# Altium integrated library Altera Stratix GX.IntLib: 96 symbols (part 1 of 44)
Pins are listed as number, name and electrical type; pins without a type are passive.

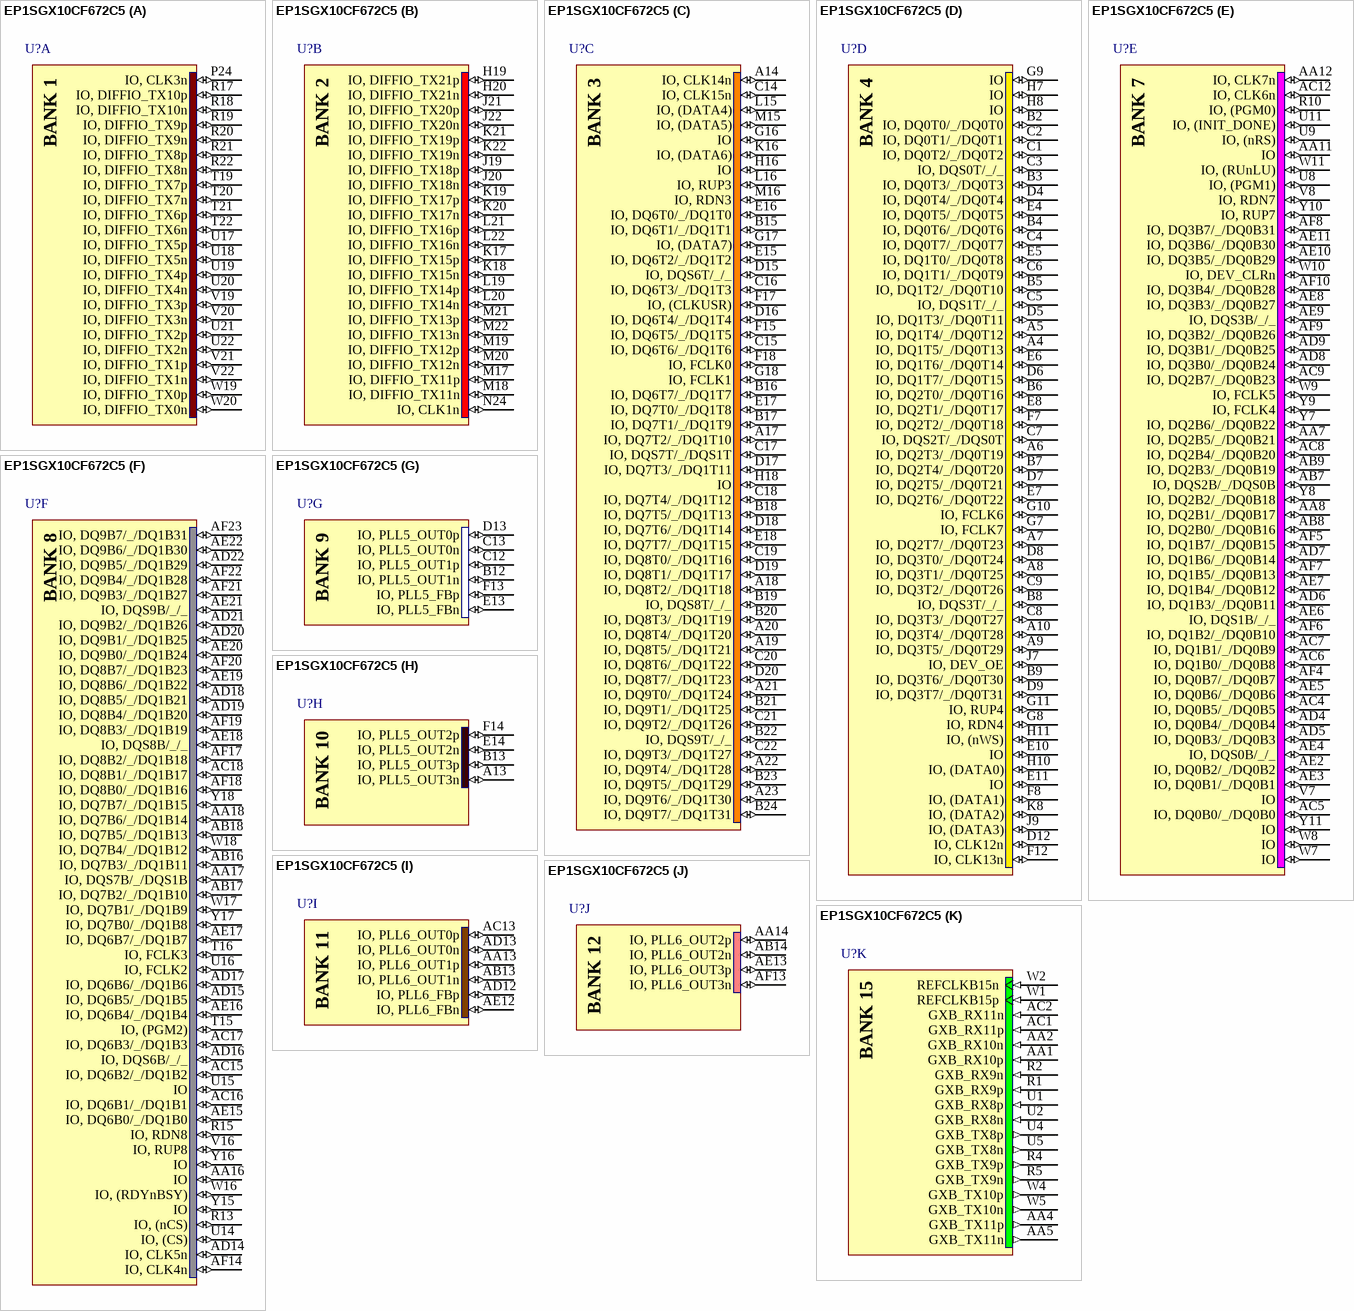
[diagram p0: symbol EP1SGX10CF672C5]

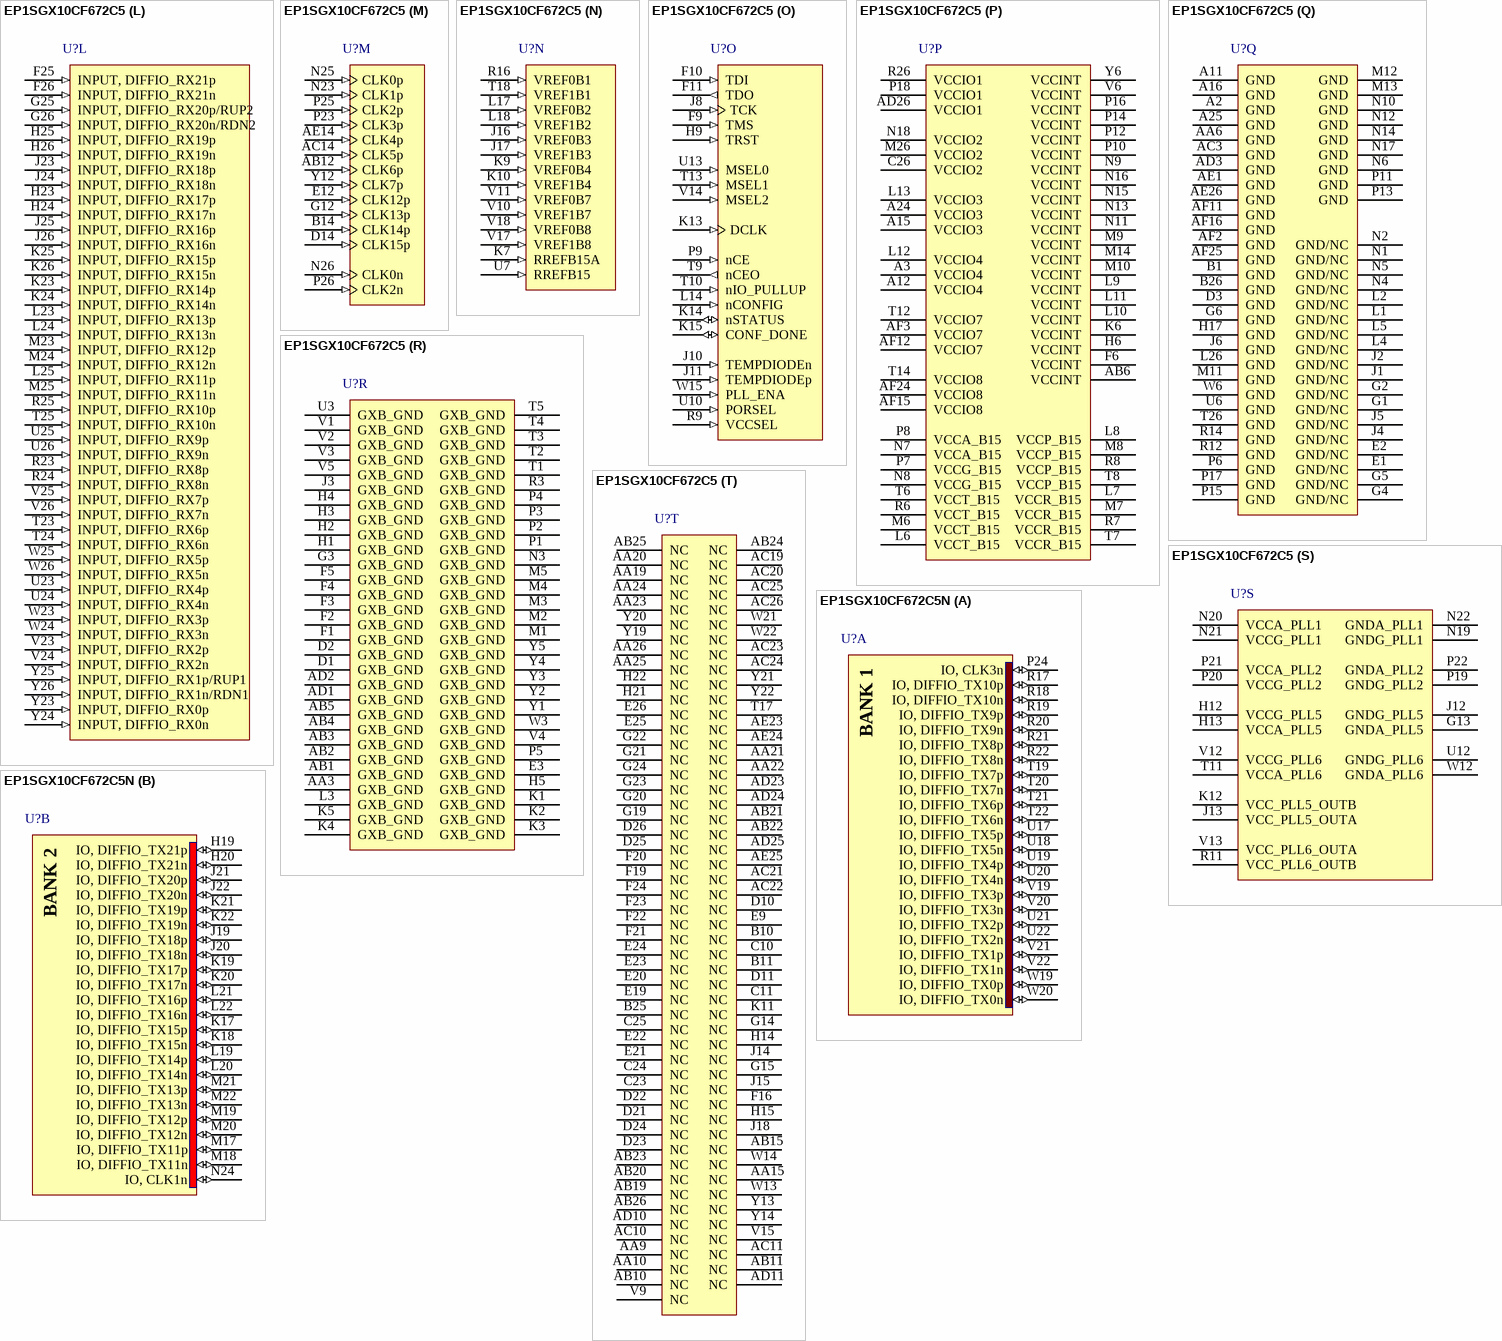
[diagram p1: symbols EP1SGX10CF672C5 to EP1SGX10CF672C5N]

## EP1SGX10CF672C5
designator U?
Stratix GX 1.5V FPGA, 330 I/Os, 672-Pin FineLine FBGA, Commercial Grade, Speed Grade 5; Published: 11-Oct-2004; LatestRevisionDate: 13-Apr-2006; LatestRevisionNote: Name of pin K7 updated, IPC-7351 Footprint Added.; DatasheetVersion: ver1.2, Jun-2006; PackageVersion: ver14.3, Jul-2006; PackageReference: FBGA672; Publisher: Altium Limited; PackageDescription: 672-Ball FineLine Ball Grid Array (FBGA672) - Flip Chip; Code_JEDEC: MS-034-AAL-1; ComponentLink1Description: Manufacturer Link; ComponentLink1URL: http://www.altera.com/products/devices/stratixgx/sgx-index.jsp; ComponentLink2Description: Handbook; ComponentLink2URL: http://www.altera.com/literature/hb/sgx/sgx_handbook.pdf; ComponentLink3Description: Packaging Specification; ComponentLink3URL: http://www.altera.com/literature/ds/dspkg.pdf
footprint FBGA672 (BGA, 672-Leads, Body 27x27mm, Pitch 1mm)
3D model EP1SGX10C-BGA672 (672-Ball FineLine Ball Grid Array (FBGA672) - Flip Chip)
part A pins: P24 IO, CLK3n (io), R17 IO, DIFFIO_TX10p (io), R18 IO, DIFFIO_TX10n (io), R19 IO, DIFFIO_TX9p (io), R20 IO, DIFFIO_TX9n (io), R21 IO, DIFFIO_TX8p (io), R22 IO, DIFFIO_TX8n (io), T19 IO, DIFFIO_TX7p (io), T20 IO, DIFFIO_TX7n (io), T21 IO, DIFFIO_TX6p (io), T22 IO, DIFFIO_TX6n (io), U17 IO, DIFFIO_TX5p (io), U18 IO, DIFFIO_TX5n (io), U19 IO, DIFFIO_TX4p (io), U20 IO, DIFFIO_TX4n (io), U21 IO, DIFFIO_TX2p (io), U22 IO, DIFFIO_TX2n (io), V19 IO, DIFFIO_TX3p (io), V20 IO, DIFFIO_TX3n (io), V21 IO, DIFFIO_TX1p (io), V22 IO, DIFFIO_TX1n (io), W19 IO, DIFFIO_TX0p (io), W20 IO, DIFFIO_TX0n (io)
part B pins: H19 IO, DIFFIO_TX21p (io), H20 IO, DIFFIO_TX21n (io), J19 IO, DIFFIO_TX18p (io), J20 IO, DIFFIO_TX18n (io), J21 IO, DIFFIO_TX20p (io), J22 IO, DIFFIO_TX20n (io), K17 IO, DIFFIO_TX15p (io), K18 IO, DIFFIO_TX15n (io), K19 IO, DIFFIO_TX17p (io), K20 IO, DIFFIO_TX17n (io), K21 IO, DIFFIO_TX19p (io), K22 IO, DIFFIO_TX19n (io), L19 IO, DIFFIO_TX14p (io), L20 IO, DIFFIO_TX14n (io), L21 IO, DIFFIO_TX16p (io), L22 IO, DIFFIO_TX16n (io), M17 IO, DIFFIO_TX11p (io), M18 IO, DIFFIO_TX11n (io), M19 IO, DIFFIO_TX12p (io), M20 IO, DIFFIO_TX12n (io), M21 IO, DIFFIO_TX13p (io), M22 IO, DIFFIO_TX13n (io), N24 IO, CLK1n (io)
part C pins: A14 IO, CLK14n (io), A17 IO, DQ7T2/_/DQ1T10 (io), A18 IO, DQ8T2/_/DQ1T18 (io), A19 IO, DQ8T5/_/DQ1T21 (io), A20 IO, DQ8T4/_/DQ1T20 (io), A21 IO, DQ9T0/_/DQ1T24 (io), A22 IO, DQ9T4/_/DQ1T28 (io), A23 IO, DQ9T6/_/DQ1T30 (io), B15 IO, DQ6T1/_/DQ1T1 (io), B16 IO, DQ6T7/_/DQ1T7 (io), B17 IO, DQ7T1/_/DQ1T9 (io), B18 IO, DQ7T5/_/DQ1T13 (io), B19 IO, DQS8T/_/_ (io), B20 IO, DQ8T3/_/DQ1T19 (io), B21 IO, DQ9T1/_/DQ1T25 (io), B22 IO, DQS9T/_/_ (io), B23 IO, DQ9T5/_/DQ1T29 (io), B24 IO, DQ9T7/_/DQ1T31 (io), C14 IO, CLK15n (io), C15 IO, DQ6T6/_/DQ1T6 (io), C16 IO, DQ6T3/_/DQ1T3 (io), C17 IO, DQS7T/_/DQS1T (io), C18 IO, DQ7T4/_/DQ1T12 (io), C19 IO, DQ8T0/_/DQ1T16 (io), C20 IO, DQ8T6/_/DQ1T22 (io), C21 IO, DQ9T2/_/DQ1T26 (io), C22 IO, DQ9T3/_/DQ1T27 (io), D15 IO, DQS6T/_/_ (io), D16 IO, DQ6T4/_/DQ1T4 (io), D17 IO, DQ7T3/_/DQ1T11 (io), D18 IO, DQ7T6/_/DQ1T14 (io), D19 IO, DQ8T1/_/DQ1T17 (io), D20 IO, DQ8T7/_/DQ1T23 (io), E15 IO, DQ6T2/_/DQ1T2 (io), E16 IO, DQ6T0/_/DQ1T0 (io), E17 IO, DQ7T0/_/DQ1T8 (io), E18 IO, DQ7T7/_/DQ1T15 (io), F15 IO, DQ6T5/_/DQ1T5 (io), F17 IO, (CLKUSR) (io), F18 IO, FCLK0 (io), G16 IO (io), G17 IO, (DATA7) (io), G18 IO, FCLK1 (io), H16 IO (io), H18 IO (io), K16 IO, (DATA6) (io), L15 IO, (DATA4) (io), L16 IO, RUP3 (io), M15 IO, (DATA5) (io), M16 IO, RDN3 (io)
part D pins: A4 IO, DQ1T5/_/DQ0T13 (io), A5 IO, DQ1T4/_/DQ0T12 (io), A6 IO, DQ2T3/_/DQ0T19 (io), A7 IO, DQ2T7/_/DQ0T23 (io), A8 IO, DQ3T1/_/DQ0T25 (io), A9 IO, DQ3T5/_/DQ0T29 (io), A10 IO, DQ3T4/_/DQ0T28 (io), B2 IO, DQ0T0/_/DQ0T0 (io), B3 IO, DQ0T3/_/DQ0T3 (io), B4 IO, DQ0T6/_/DQ0T6 (io), B5 IO, DQ1T2/_/DQ0T10 (io), B6 IO, DQ2T0/_/DQ0T16 (io), B7 IO, DQ2T4/_/DQ0T20 (io), B8 IO, DQS3T/_/_ (io), B9 IO, DQ3T6/_/DQ0T30 (io), C1 IO, DQ0T2/_/DQ0T2 (io), C2 IO, DQ0T1/_/DQ0T1 (io), C3 IO, DQS0T/_/_ (io), C4 IO, DQ0T7/_/DQ0T7 (io), C5 IO, DQS1T/_/_ (io), C6 IO, DQ1T1/_/DQ0T9 (io), C7 IO, DQS2T/_/DQS0T (io), C8 IO, DQ3T3/_/DQ0T27 (io), C9 IO, DQ3T2/_/DQ0T26 (io), D4 IO, DQ0T4/_/DQ0T4 (io), D5 IO, DQ1T3/_/DQ0T11 (io), D6 IO, DQ1T7/_/DQ0T15 (io), D7 IO, DQ2T5/_/DQ0T21 (io), D8 IO, DQ3T0/_/DQ0T24 (io), D9 IO, DQ3T7/_/DQ0T31 (io), D12 IO, CLK12n (io), E4 IO, DQ0T5/_/DQ0T5 (io), E5 IO, DQ1T0/_/DQ0T8 (io), E6 IO, DQ1T6/_/DQ0T14 (io), E7 IO, DQ2T6/_/DQ0T22 (io), E8 IO, DQ2T1/_/DQ0T17 (io), E10 IO (io), E11 IO (io), F7 IO, DQ2T2/_/DQ0T18 (io), F8 IO, (DATA1) (io), F12 IO, CLK13n (io), G7 IO, FCLK7 (io), G8 IO, RDN4 (io), G9 IO (io), G10 IO, FCLK6 (io), G11 IO, RUP4 (io), H7 IO (io), H8 IO (io), H10 IO, (DATA0) (io), H11 IO, (nWS) (io), J7 IO, DEV_OE (io), J9 IO, (DATA3) (io), K8 IO, (DATA2) (io)
part E pins: AA7 IO, DQ2B5/_/DQ0B21 (io), AA8 IO, DQ2B1/_/DQ0B17 (io), AA11 IO (io), AA12 IO, CLK7n (io), AB7 IO, DQS2B/_/DQS0B (io), AB8 IO, DQ2B0/_/DQ0B16 (io), AB9 IO, DQ2B3/_/DQ0B19 (io), AC4 IO, DQ0B5/_/DQ0B5 (io), AC5 IO, DQ0B0/_/DQ0B0 (io), AC6 IO, DQ1B0/_/DQ0B8 (io), AC7 IO, DQ1B1/_/DQ0B9 (io), AC8 IO, DQ2B4/_/DQ0B20 (io), AC9 IO, DQ2B7/_/DQ0B23 (io), AC12 IO, CLK6n (io), AD4 IO, DQ0B4/_/DQ0B4 (io), AD5 IO, DQ0B3/_/DQ0B3 (io), AD6 IO, DQ1B3/_/DQ0B11 (io), AD7 IO, DQ1B6/_/DQ0B14 (io), AD8 IO, DQ3B0/_/DQ0B24 (io), AD9 IO, DQ3B1/_/DQ0B25 (io), AE2 IO, DQ0B2/_/DQ0B2 (io), AE3 IO, DQ0B1/_/DQ0B1 (io), AE4 IO, DQS0B/_/_ (io), AE5 IO, DQ0B6/_/DQ0B6 (io), AE6 IO, DQS1B/_/_ (io), AE7 IO, DQ1B4/_/DQ0B12 (io), AE8 IO, DQ3B3/_/DQ0B27 (io), AE9 IO, DQS3B/_/_ (io), AE10 IO, DQ3B5/_/DQ0B29 (io), AE11 IO, DQ3B6/_/DQ0B30 (io), AF4 IO, DQ0B7/_/DQ0B7 (io), AF5 IO, DQ1B7/_/DQ0B15 (io), AF6 IO, DQ1B2/_/DQ0B10 (io), AF7 IO, DQ1B5/_/DQ0B13 (io), AF8 IO, DQ3B7/_/DQ0B31 (io), AF9 IO, DQ3B2/_/DQ0B26 (io), AF10 IO, DQ3B4/_/DQ0B28 (io), R10 IO, (PGM0) (io), U8 IO, (PGM1) (io), U9 IO, (nRS) (io), U11 IO, (INIT_DONE) (io), V7 IO (io), V8 IO, RDN7 (io), W7 IO (io), W8 IO (io), W9 IO, FCLK5 (io), W10 IO, DEV_CLRn (io), W11 IO, (RUnLU) (io), Y7 IO, DQ2B6/_/DQ0B22 (io), Y8 IO, DQ2B2/_/DQ0B18 (io), Y9 IO, FCLK4 (io), Y10 IO, RUP7 (io), Y11 IO (io)
part F pins: AA16 IO (io), AA17 IO, DQS7B/_/DQS1B (io), AA18 IO, DQ7B6/_/DQ1B14 (io), AB16 IO, DQ7B3/_/DQ1B11 (io), AB17 IO, DQ7B2/_/DQ1B10 (io), AB18 IO, DQ7B5/_/DQ1B13 (io), AC15 IO, DQ6B2/_/DQ1B2 (io), AC16 IO, DQ6B1/_/DQ1B1 (io), AC17 IO, DQ6B3/_/DQ1B3 (io), AC18 IO, DQ8B1/_/DQ1B17 (io), AD14 IO, CLK5n (io), AD15 IO, DQ6B5/_/DQ1B5 (io), AD16 IO, DQS6B/_/_ (io), AD17 IO, DQ6B6/_/DQ1B6 (io), AD18 IO, DQ8B5/_/DQ1B21 (io), AD19 IO, DQ8B4/_/DQ1B20 (io), AD20 IO, DQ9B1/_/DQ1B25 (io), AD21 IO, DQ9B2/_/DQ1B26 (io), AD22 IO, DQ9B5/_/DQ1B29 (io), AE15 IO, DQ6B0/_/DQ1B0 (io), AE16 IO, DQ6B4/_/DQ1B4 (io), AE17 IO, DQ6B7/_/DQ1B7 (io), AE18 IO, DQS8B/_/_ (io), AE19 IO, DQ8B6/_/DQ1B22 (io), AE20 IO, DQ9B0/_/DQ1B24 (io), AE21 IO, DQS9B/_/_ (io), AE22 IO, DQ9B6/_/DQ1B30 (io), AF14 IO, CLK4n (io), AF17 IO, DQ8B2/_/DQ1B18 (io), AF18 IO, DQ8B0/_/DQ1B16 (io), AF19 IO, DQ8B3/_/DQ1B19 (io), AF20 IO, DQ8B7/_/DQ1B23 (io), AF21 IO, DQ9B3/_/DQ1B27 (io), AF22 IO, DQ9B4/_/DQ1B28 (io), AF23 IO, DQ9B7/_/DQ1B31 (io), R13 IO, (nCS) (io), R15 IO, RDN8 (io), T15 IO, (PGM2) (io), T16 IO, FCLK3 (io), U14 IO, (CS) (io), U15 IO (io), U16 IO, FCLK2 (io), V16 IO, RUP8 (io), W16 IO, (RDYnBSY) (io), W17 IO, DQ7B1/_/DQ1B9 (io), W18 IO, DQ7B4/_/DQ1B12 (io), Y15 IO (io), Y16 IO (io), Y17 IO, DQ7B0/_/DQ1B8 (io), Y18 IO, DQ7B7/_/DQ1B15 (io)
part G pins: B12 IO, PLL5_OUT1n (io), C12 IO, PLL5_OUT1p (io), C13 IO, PLL5_OUT0n (io), D13 IO, PLL5_OUT0p (io), E13 IO, PLL5_FBn (io), F13 IO, PLL5_FBp (io)
part H pins: A13 IO, PLL5_OUT3n (io), B13 IO, PLL5_OUT3p (io), E14 IO, PLL5_OUT2n (io), F14 IO, PLL5_OUT2p (io)
part I pins: AA13 IO, PLL6_OUT1p (io), AB13 IO, PLL6_OUT1n (io), AC13 IO, PLL6_OUT0p (io), AD12 IO, PLL6_FBp (io), AD13 IO, PLL6_OUT0n (io), AE12 IO, PLL6_FBn (io)
part J pins: AA14 IO, PLL6_OUT2p (io), AB14 IO, PLL6_OUT2n (io), AE13 IO, PLL6_OUT3p (io), AF13 IO, PLL6_OUT3n (io)
part K pins: AA1 GXB_RX10p (in), AA2 GXB_RX10n (in), AA4 GXB_TX11p (out), AA5 GXB_TX11n (out), AC1 GXB_RX11p (in), AC2 GXB_RX11n (in), R1 GXB_RX9p (in), R2 GXB_RX9n (in), R4 GXB_TX9p (out), R5 GXB_TX9n (out), U1 GXB_RX8p (in), U2 GXB_RX8n (in), U4 GXB_TX8p (out), U5 GXB_TX8n (out), W1 REFCLKB15p (in), W2 REFCLKB15n (in), W4 GXB_TX10p (out), W5 GXB_TX10n (out)
part L pins: F25 INPUT, DIFFIO_RX21p (in), F26 INPUT, DIFFIO_RX21n (in), G25 INPUT, DIFFIO_RX20p/RUP2 (in), G26 INPUT, DIFFIO_RX20n/RDN2 (in), H23 INPUT, DIFFIO_RX17p (in), H24 INPUT, DIFFIO_RX17n (in), H25 INPUT, DIFFIO_RX19p (in), H26 INPUT, DIFFIO_RX19n (in), J23 INPUT, DIFFIO_RX18p (in), J24 INPUT, DIFFIO_RX18n (in), J25 INPUT, DIFFIO_RX16p (in), J26 INPUT, DIFFIO_RX16n (in), K23 INPUT, DIFFIO_RX14p (in), K24 INPUT, DIFFIO_RX14n (in), K25 INPUT, DIFFIO_RX15p (in), K26 INPUT, DIFFIO_RX15n (in), L23 INPUT, DIFFIO_RX13p (in), L24 INPUT, DIFFIO_RX13n (in), L25 INPUT, DIFFIO_RX11p (in), M23 INPUT, DIFFIO_RX12p (in), M24 INPUT, DIFFIO_RX12n (in), M25 INPUT, DIFFIO_RX11n (in), R23 INPUT, DIFFIO_RX8p (in), R24 INPUT, DIFFIO_RX8n (in), R25 INPUT, DIFFIO_RX10p (in), T23 INPUT, DIFFIO_RX6p (in), T24 INPUT, DIFFIO_RX6n (in), T25 INPUT, DIFFIO_RX10n (in), U23 INPUT, DIFFIO_RX4p (in), U24 INPUT, DIFFIO_RX4n (in), U25 INPUT, DIFFIO_RX9p (in), U26 INPUT, DIFFIO_RX9n (in), V23 INPUT, DIFFIO_RX2p (in), V24 INPUT, DIFFIO_RX2n (in), V25 INPUT, DIFFIO_RX7p (in), V26 INPUT, DIFFIO_RX7n (in), W23 INPUT, DIFFIO_RX3p (in), W24 INPUT, DIFFIO_RX3n (in), W25 INPUT, DIFFIO_RX5p (in), W26 INPUT, DIFFIO_RX5n (in), Y23 INPUT, DIFFIO_RX0p (in), Y24 INPUT, DIFFIO_RX0n (in), Y25 INPUT, DIFFIO_RX1p/RUP1 (in), Y26 INPUT, DIFFIO_RX1n/RDN1 (in)
part M pins: AB12 CLK6p (in), AC14 CLK5p (in), AE14 CLK4p (in), B14 CLK14p (in), D14 CLK15p (in), E12 CLK12p (in), G12 CLK13p (in), N23 CLK1p (in), N25 CLK0p (in), N26 CLK0n (in), P23 CLK3p (in), P25 CLK2p (in), P26 CLK2n (in), Y12 CLK7p (in)
part N pins: J16 VREF0B3 (in), J17 VREF1B3 (in), K7 RREFB15A (in), K9 VREF0B4 (in), K10 VREF1B4 (in), L17 VREF0B2 (in), L18 VREF1B2 (in), R16 VREF0B1 (in), T18 VREF1B1 (in), U7 RREFB15 (in), V10 VREF1B7 (in), V11 VREF0B7 (in), V17 VREF1B8 (in), V18 VREF0B8 (in)
part O pins: F9 TMS (in), F10 TDI (in), F11 TDO (out), H9 TRST (in), J8 TCK (in), J10 TEMPDIODEn (in), J11 TEMPDIODEp (in), K13 DCLK (in), K14 nSTATUS (io), K15 CONF_DONE (io), L14 nCONFIG (in), P9 nCE (in), R9 VCCSEL (in), T9 nCEO (out), T10 nIO_PULLUP (in), T13 MSEL1 (in), U10 PORSEL (in), U13 MSEL0 (in), V14 MSEL2 (in), W15 PLL_ENA (in)
part P pins: A3 VCCIO4 (power), A12 VCCIO4 (power), A15 VCCIO3 (power), A24 VCCIO3 (power), AB6 VCCINT (power), AD26 VCCIO1 (power), AF3 VCCIO7 (power), AF12 VCCIO7 (power), AF15 VCCIO8 (power), AF24 VCCIO8 (power), C26 VCCIO2 (power), F6 VCCINT (power), H6 VCCINT (power), K6 VCCINT (power), L6 VCCT_B15 (power), L7 VCCR_B15 (power), L8 VCCP_B15 (power), L9 VCCINT (power), L10 VCCINT (power), L11 VCCINT (power), L12 VCCIO4 (power), L13 VCCIO3 (power), M6 VCCT_B15 (power), M7 VCCR_B15 (power), M8 VCCP_B15 (power), M9 VCCINT (power), M10 VCCINT (power), M14 VCCINT (power), M26 VCCIO2 (power), N7 VCCA_B15 (power), N8 VCCG_B15 (power), N9 VCCINT (power), N11 VCCINT (power), N13 VCCINT (power), N15 VCCINT (power), N16 VCCINT (power), N18 VCCIO2 (power), P7 VCCG_B15 (power), P8 VCCA_B15 (power), P10 VCCINT (power), P12 VCCINT (power), P14 VCCINT (power), P16 VCCINT (power), P18 VCCIO1 (power), R6 VCCT_B15 (power), R7 VCCR_B15 (power), R8 VCCP_B15 (power), R26 VCCIO1 (power), T6 VCCT_B15 (power), T7 VCCR_B15 (power), T8 VCCP_B15 (power), T12 VCCIO7 (power), T14 VCCIO8 (power), V6 VCCINT (power), Y6 VCCINT (power)
part Q pins: A2 GND (power), A11 GND (power), A16 GND (power), A25 GND (power), AA6 GND (power), AC3 GND (power), AD3 GND (power), AE1 GND (power), AE26 GND (power), AF2 GND (power), AF11 GND (power), AF16 GND (power), AF25 GND (power), B1 GND (power), B26 GND (power), D3 GND (power), E1 GND/NC (power), E2 GND/NC (power), G1 GND/NC (power), G2 GND/NC (power), G4 GND/NC (power), G5 GND/NC (power), G6 GND (power), H17 GND (power), J1 GND/NC (power), J2 GND/NC (power), J4 GND/NC (power), J5 GND/NC (power), J6 GND (power), L1 GND/NC (power), L2 GND/NC (power), L4 GND/NC (power), L5 GND/NC (power), L26 GND (power), M11 GND (power), M12 GND (power), M13 GND (power), N1 GND/NC (power), N2 GND/NC (power), N4 GND/NC (power), N5 GND/NC (power), N6 GND (power), N10 GND (power), N12 GND (power), N14 GND (power), N17 GND (power), P6 GND (power), P11 GND (power), P13 GND (power), P15 GND (power), P17 GND (power), R12 GND (power), R14 GND (power), T26 GND (power), U6 GND (power), W6 GND (power)
part R pins: AA3 GXB_GND (power), AB1 GXB_GND (power), AB2 GXB_GND (power), AB3 GXB_GND (power), AB4 GXB_GND (power), AB5 GXB_GND (power), AD1 GXB_GND (power), AD2 GXB_GND (power), D1 GXB_GND (power), D2 GXB_GND (power), E3 GXB_GND (power), F1 GXB_GND (power), F2 GXB_GND (power), F3 GXB_GND (power), F4 GXB_GND (power), F5 GXB_GND (power), G3 GXB_GND (power), H1 GXB_GND (power), H2 GXB_GND (power), H3 GXB_GND (power), H4 GXB_GND (power), H5 GXB_GND (power), J3 GXB_GND (power), K1 GXB_GND (power), K2 GXB_GND (power), K3 GXB_GND (power), K4 GXB_GND (power), K5 GXB_GND (power), L3 GXB_GND (power), M1 GXB_GND (power), M2 GXB_GND (power), M3 GXB_GND (power), M4 GXB_GND (power), M5 GXB_GND (power), N3 GXB_GND (power), P1 GXB_GND (power), P2 GXB_GND (power), P3 GXB_GND (power), P4 GXB_GND (power), P5 GXB_GND (power), R3 GXB_GND (power), T1 GXB_GND (power), T2 GXB_GND (power), T3 GXB_GND (power), T4 GXB_GND (power), T5 GXB_GND (power), U3 GXB_GND (power), V1 GXB_GND (power), V2 GXB_GND (power), V3 GXB_GND (power), V4 GXB_GND (power), V5 GXB_GND (power), W3 GXB_GND (power), Y1 GXB_GND (power), Y2 GXB_GND (power), Y3 GXB_GND (power), Y4 GXB_GND (power), Y5 GXB_GND (power)
part S pins: G13 GNDA_PLL5 (power), H12 VCCG_PLL5 (power), H13 VCCA_PLL5 (power), J12 GNDG_PLL5 (power), J13 VCC_PLL5_OUTA (power), K12 VCC_PLL5_OUTB (power), N19 GNDG_PLL1 (power), N20 VCCA_PLL1 (power), N21 VCCG_PLL1 (power), N22 GNDA_PLL1 (power), P19 GNDG_PLL2 (power), P20 VCCG_PLL2 (power), P21 VCCA_PLL2 (power), P22 GNDA_PLL2 (power), R11 VCC_PLL6_OUTB (power), T11 VCCA_PLL6 (power), U12 GNDG_PLL6 (power), V12 VCCG_PLL6 (power), V13 VCC_PLL6_OUTA (power), W12 GNDA_PLL6 (power)
part T pins: AA9 NC, AA10 NC, AA15 NC, AA19 NC, AA20 NC, AA21 NC, AA22 NC, AA23 NC, AA24 NC, AA25 NC, AA26 NC, AB10 NC, AB11 NC, AB15 NC, AB19 NC, AB20 NC, AB21 NC, AB22 NC, AB23 NC, AB24 NC, AB25 NC, AB26 NC, AC10 NC, AC11 NC, AC19 NC, AC20 NC, AC21 NC, AC22 NC, AC23 NC, AC24 NC, AC25 NC, AC26 NC, AD10 NC, AD11 NC, AD23 NC, AD24 NC, AD25 NC, AE23 NC, AE24 NC, AE25 NC, B10 NC, B11 NC, B25 NC, C10 NC, C11 NC, C23 NC, C24 NC, C25 NC, D10 NC, D11 NC, D21 NC, D22 NC, D23 NC, D24 NC, D25 NC, D26 NC, E9 NC, E19 NC, E20 NC, E21 NC, E22 NC, E23 NC, E24 NC, E25 NC, E26 NC, F16 NC, F19 NC, F20 NC, F21 NC, F22 NC, F23 NC, F24 NC, G14 NC, G15 NC, G19 NC, G20 NC, G21 NC, G22 NC, G23 NC, G24 NC, H14 NC, H15 NC, H21 NC, H22 NC, J14 NC, J15 NC, J18 NC, K11 NC, T17 NC, V9 NC, V15 NC, W13 NC, W14 NC, W21 NC, W22 NC, Y13 NC, Y14 NC, Y19 NC, Y20 NC, Y21 NC, Y22 NC
part A text: BANK 1
part B text: BANK 2
part C text: BANK 3
part D text: BANK 4
part E text: BANK 7
part F text: BANK 8
part G text: BANK 9
part H text: BANK 10
part I text: BANK 11
part J text: BANK 12
part K text: BANK 15

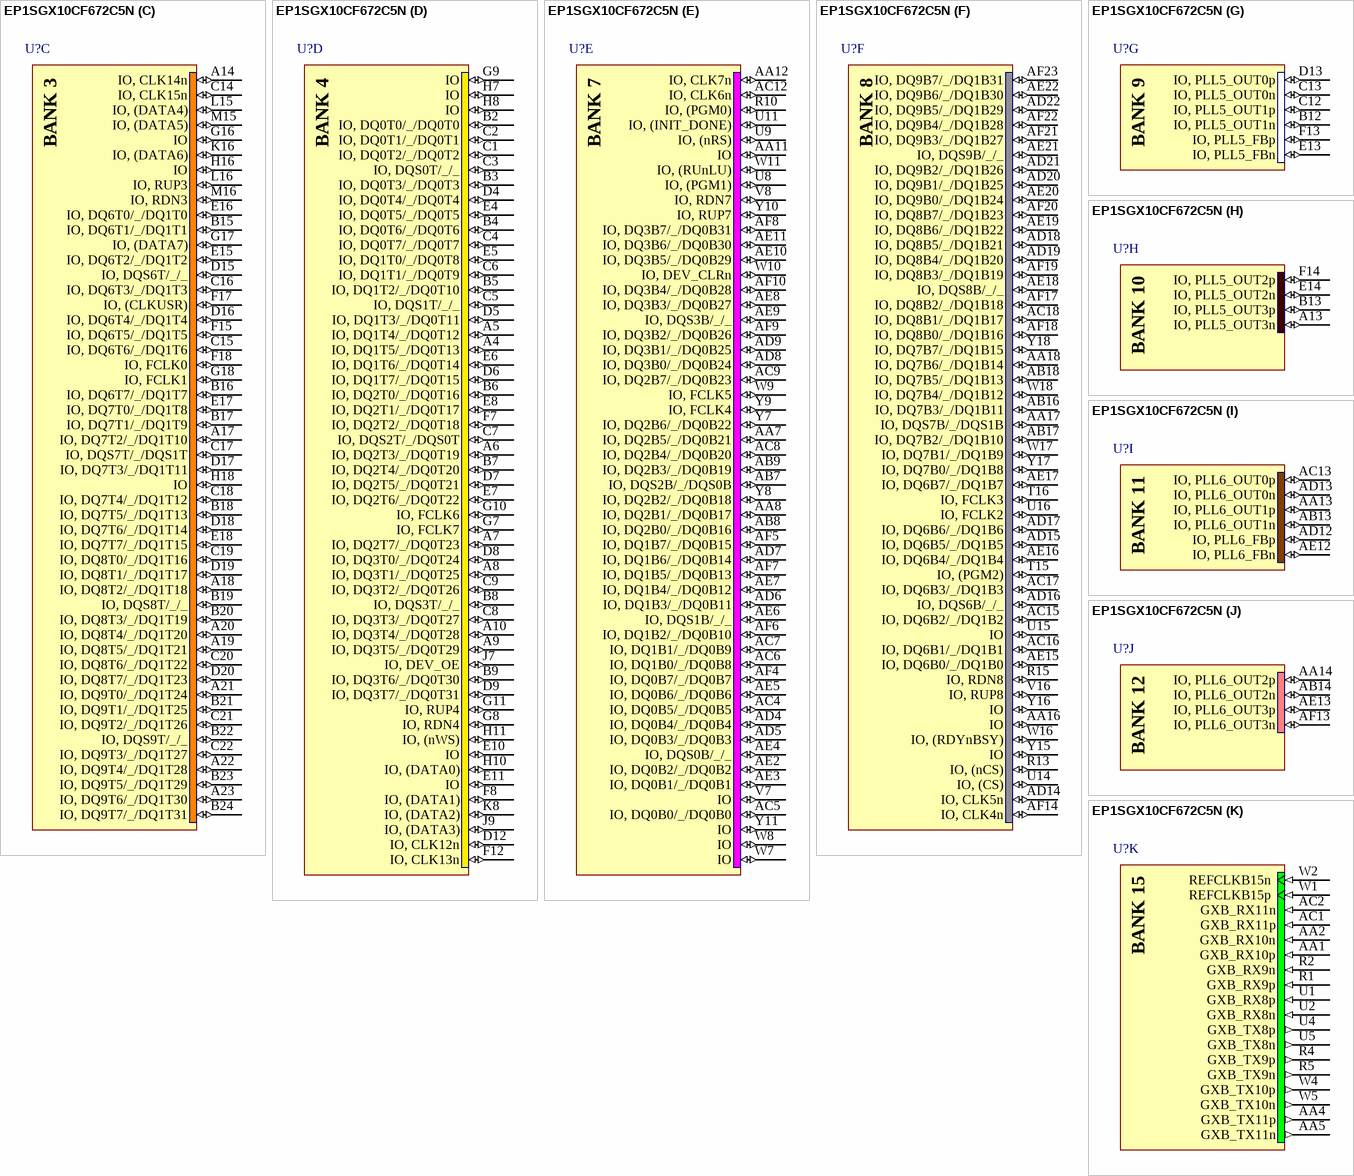
[diagram p2: symbol EP1SGX10CF672C5N]

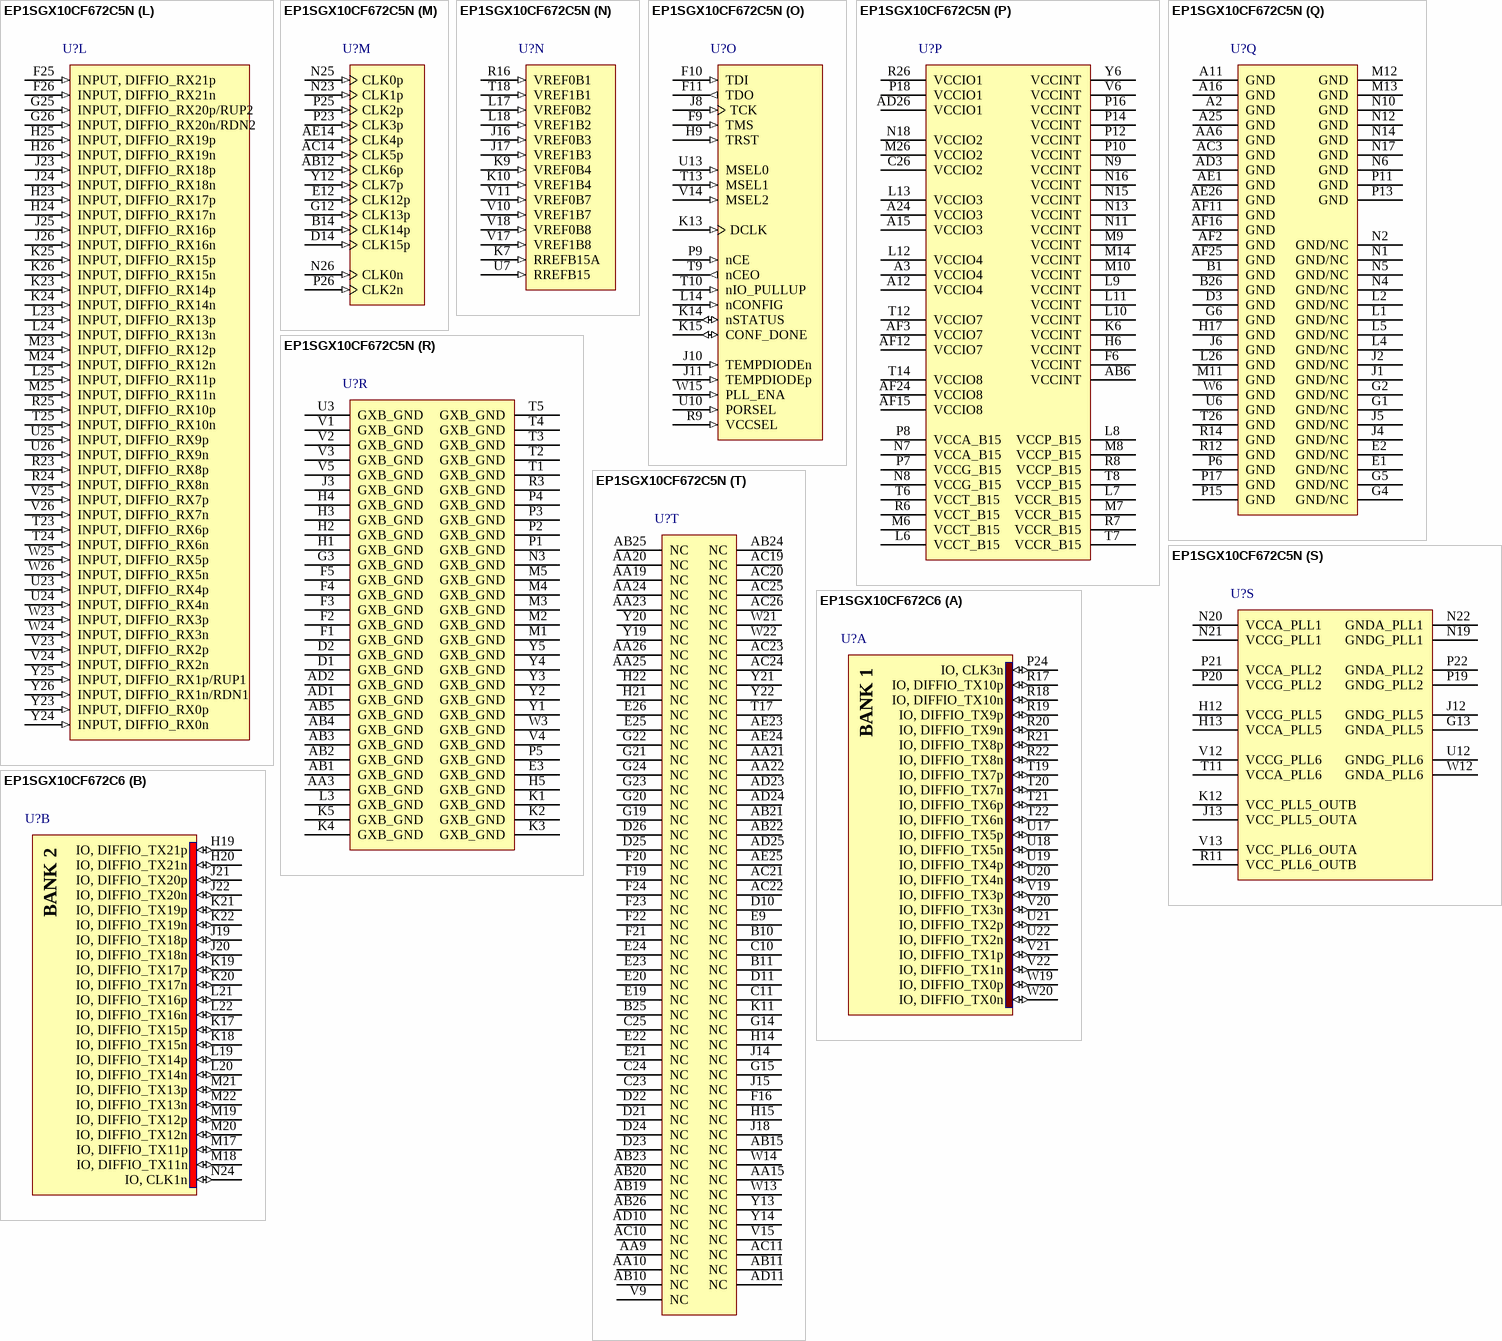
[diagram p3: symbols EP1SGX10CF672C5N to EP1SGX10CF672C6]

## EP1SGX10CF672C5N
designator U?
Stratix GX 1.5V FPGA, 330 I/Os, 672-Pin FineLine FBGA, Commercial Grade, Speed Grade 5, Pb-Free; Published: 18-Aug-2005; LatestRevisionDate: 13-Apr-2006; LatestRevisionNote: Name of pin K7 updated, IPC-7351 Footprint Added.; DatasheetVersion: ver1.2, Jun-2006; PackageVersion: ver14.3, Jul-2006; PackageReference: FBGA672; Publisher: Altium Limited; PackageDescription: 672-Ball FineLine Ball Grid Array (FBGA672) - Flip Chip; Code_JEDEC: MS-034-AAL-1; ComponentLink1Description: Manufacturer Link; ComponentLink1URL: http://www.altera.com/products/devices/stratixgx/sgx-index.jsp; ComponentLink2Description: Handbook; ComponentLink2URL: http://www.altera.com/literature/hb/sgx/sgx_handbook.pdf; ComponentLink3Description: Packaging Specification; ComponentLink3URL: http://www.altera.com/literature/ds/dspkg.pdf
footprint FBGA672 (BGA, 672-Leads, Body 27x27mm, Pitch 1mm)
3D model EP1SGX10C-BGA672 (672-Ball FineLine Ball Grid Array (FBGA672) - Flip Chip)
part A pins: P24 IO, CLK3n (io), R17 IO, DIFFIO_TX10p (io), R18 IO, DIFFIO_TX10n (io), R19 IO, DIFFIO_TX9p (io), R20 IO, DIFFIO_TX9n (io), R21 IO, DIFFIO_TX8p (io), R22 IO, DIFFIO_TX8n (io), T19 IO, DIFFIO_TX7p (io), T20 IO, DIFFIO_TX7n (io), T21 IO, DIFFIO_TX6p (io), T22 IO, DIFFIO_TX6n (io), U17 IO, DIFFIO_TX5p (io), U18 IO, DIFFIO_TX5n (io), U19 IO, DIFFIO_TX4p (io), U20 IO, DIFFIO_TX4n (io), U21 IO, DIFFIO_TX2p (io), U22 IO, DIFFIO_TX2n (io), V19 IO, DIFFIO_TX3p (io), V20 IO, DIFFIO_TX3n (io), V21 IO, DIFFIO_TX1p (io), V22 IO, DIFFIO_TX1n (io), W19 IO, DIFFIO_TX0p (io), W20 IO, DIFFIO_TX0n (io)
part B pins: H19 IO, DIFFIO_TX21p (io), H20 IO, DIFFIO_TX21n (io), J19 IO, DIFFIO_TX18p (io), J20 IO, DIFFIO_TX18n (io), J21 IO, DIFFIO_TX20p (io), J22 IO, DIFFIO_TX20n (io), K17 IO, DIFFIO_TX15p (io), K18 IO, DIFFIO_TX15n (io), K19 IO, DIFFIO_TX17p (io), K20 IO, DIFFIO_TX17n (io), K21 IO, DIFFIO_TX19p (io), K22 IO, DIFFIO_TX19n (io), L19 IO, DIFFIO_TX14p (io), L20 IO, DIFFIO_TX14n (io), L21 IO, DIFFIO_TX16p (io), L22 IO, DIFFIO_TX16n (io), M17 IO, DIFFIO_TX11p (io), M18 IO, DIFFIO_TX11n (io), M19 IO, DIFFIO_TX12p (io), M20 IO, DIFFIO_TX12n (io), M21 IO, DIFFIO_TX13p (io), M22 IO, DIFFIO_TX13n (io), N24 IO, CLK1n (io)
part C pins: A14 IO, CLK14n (io), A17 IO, DQ7T2/_/DQ1T10 (io), A18 IO, DQ8T2/_/DQ1T18 (io), A19 IO, DQ8T5/_/DQ1T21 (io), A20 IO, DQ8T4/_/DQ1T20 (io), A21 IO, DQ9T0/_/DQ1T24 (io), A22 IO, DQ9T4/_/DQ1T28 (io), A23 IO, DQ9T6/_/DQ1T30 (io), B15 IO, DQ6T1/_/DQ1T1 (io), B16 IO, DQ6T7/_/DQ1T7 (io), B17 IO, DQ7T1/_/DQ1T9 (io), B18 IO, DQ7T5/_/DQ1T13 (io), B19 IO, DQS8T/_/_ (io), B20 IO, DQ8T3/_/DQ1T19 (io), B21 IO, DQ9T1/_/DQ1T25 (io), B22 IO, DQS9T/_/_ (io), B23 IO, DQ9T5/_/DQ1T29 (io), B24 IO, DQ9T7/_/DQ1T31 (io), C14 IO, CLK15n (io), C15 IO, DQ6T6/_/DQ1T6 (io), C16 IO, DQ6T3/_/DQ1T3 (io), C17 IO, DQS7T/_/DQS1T (io), C18 IO, DQ7T4/_/DQ1T12 (io), C19 IO, DQ8T0/_/DQ1T16 (io), C20 IO, DQ8T6/_/DQ1T22 (io), C21 IO, DQ9T2/_/DQ1T26 (io), C22 IO, DQ9T3/_/DQ1T27 (io), D15 IO, DQS6T/_/_ (io), D16 IO, DQ6T4/_/DQ1T4 (io), D17 IO, DQ7T3/_/DQ1T11 (io), D18 IO, DQ7T6/_/DQ1T14 (io), D19 IO, DQ8T1/_/DQ1T17 (io), D20 IO, DQ8T7/_/DQ1T23 (io), E15 IO, DQ6T2/_/DQ1T2 (io), E16 IO, DQ6T0/_/DQ1T0 (io), E17 IO, DQ7T0/_/DQ1T8 (io), E18 IO, DQ7T7/_/DQ1T15 (io), F15 IO, DQ6T5/_/DQ1T5 (io), F17 IO, (CLKUSR) (io), F18 IO, FCLK0 (io), G16 IO (io), G17 IO, (DATA7) (io), G18 IO, FCLK1 (io), H16 IO (io), H18 IO (io), K16 IO, (DATA6) (io), L15 IO, (DATA4) (io), L16 IO, RUP3 (io), M15 IO, (DATA5) (io), M16 IO, RDN3 (io)
part D pins: A4 IO, DQ1T5/_/DQ0T13 (io), A5 IO, DQ1T4/_/DQ0T12 (io), A6 IO, DQ2T3/_/DQ0T19 (io), A7 IO, DQ2T7/_/DQ0T23 (io), A8 IO, DQ3T1/_/DQ0T25 (io), A9 IO, DQ3T5/_/DQ0T29 (io), A10 IO, DQ3T4/_/DQ0T28 (io), B2 IO, DQ0T0/_/DQ0T0 (io), B3 IO, DQ0T3/_/DQ0T3 (io), B4 IO, DQ0T6/_/DQ0T6 (io), B5 IO, DQ1T2/_/DQ0T10 (io), B6 IO, DQ2T0/_/DQ0T16 (io), B7 IO, DQ2T4/_/DQ0T20 (io), B8 IO, DQS3T/_/_ (io), B9 IO, DQ3T6/_/DQ0T30 (io), C1 IO, DQ0T2/_/DQ0T2 (io), C2 IO, DQ0T1/_/DQ0T1 (io), C3 IO, DQS0T/_/_ (io), C4 IO, DQ0T7/_/DQ0T7 (io), C5 IO, DQS1T/_/_ (io), C6 IO, DQ1T1/_/DQ0T9 (io), C7 IO, DQS2T/_/DQS0T (io), C8 IO, DQ3T3/_/DQ0T27 (io), C9 IO, DQ3T2/_/DQ0T26 (io), D4 IO, DQ0T4/_/DQ0T4 (io), D5 IO, DQ1T3/_/DQ0T11 (io), D6 IO, DQ1T7/_/DQ0T15 (io), D7 IO, DQ2T5/_/DQ0T21 (io), D8 IO, DQ3T0/_/DQ0T24 (io), D9 IO, DQ3T7/_/DQ0T31 (io), D12 IO, CLK12n (io), E4 IO, DQ0T5/_/DQ0T5 (io), E5 IO, DQ1T0/_/DQ0T8 (io), E6 IO, DQ1T6/_/DQ0T14 (io), E7 IO, DQ2T6/_/DQ0T22 (io), E8 IO, DQ2T1/_/DQ0T17 (io), E10 IO (io), E11 IO (io), F7 IO, DQ2T2/_/DQ0T18 (io), F8 IO, (DATA1) (io), F12 IO, CLK13n (io), G7 IO, FCLK7 (io), G8 IO, RDN4 (io), G9 IO (io), G10 IO, FCLK6 (io), G11 IO, RUP4 (io), H7 IO (io), H8 IO (io), H10 IO, (DATA0) (io), H11 IO, (nWS) (io), J7 IO, DEV_OE (io), J9 IO, (DATA3) (io), K8 IO, (DATA2) (io)
part E pins: AA7 IO, DQ2B5/_/DQ0B21 (io), AA8 IO, DQ2B1/_/DQ0B17 (io), AA11 IO (io), AA12 IO, CLK7n (io), AB7 IO, DQS2B/_/DQS0B (io), AB8 IO, DQ2B0/_/DQ0B16 (io), AB9 IO, DQ2B3/_/DQ0B19 (io), AC4 IO, DQ0B5/_/DQ0B5 (io), AC5 IO, DQ0B0/_/DQ0B0 (io), AC6 IO, DQ1B0/_/DQ0B8 (io), AC7 IO, DQ1B1/_/DQ0B9 (io), AC8 IO, DQ2B4/_/DQ0B20 (io), AC9 IO, DQ2B7/_/DQ0B23 (io), AC12 IO, CLK6n (io), AD4 IO, DQ0B4/_/DQ0B4 (io), AD5 IO, DQ0B3/_/DQ0B3 (io), AD6 IO, DQ1B3/_/DQ0B11 (io), AD7 IO, DQ1B6/_/DQ0B14 (io), AD8 IO, DQ3B0/_/DQ0B24 (io), AD9 IO, DQ3B1/_/DQ0B25 (io), AE2 IO, DQ0B2/_/DQ0B2 (io), AE3 IO, DQ0B1/_/DQ0B1 (io), AE4 IO, DQS0B/_/_ (io), AE5 IO, DQ0B6/_/DQ0B6 (io), AE6 IO, DQS1B/_/_ (io), AE7 IO, DQ1B4/_/DQ0B12 (io), AE8 IO, DQ3B3/_/DQ0B27 (io), AE9 IO, DQS3B/_/_ (io), AE10 IO, DQ3B5/_/DQ0B29 (io), AE11 IO, DQ3B6/_/DQ0B30 (io), AF4 IO, DQ0B7/_/DQ0B7 (io), AF5 IO, DQ1B7/_/DQ0B15 (io), AF6 IO, DQ1B2/_/DQ0B10 (io), AF7 IO, DQ1B5/_/DQ0B13 (io), AF8 IO, DQ3B7/_/DQ0B31 (io), AF9 IO, DQ3B2/_/DQ0B26 (io), AF10 IO, DQ3B4/_/DQ0B28 (io), R10 IO, (PGM0) (io), U8 IO, (PGM1) (io), U9 IO, (nRS) (io), U11 IO, (INIT_DONE) (io), V7 IO (io), V8 IO, RDN7 (io), W7 IO (io), W8 IO (io), W9 IO, FCLK5 (io), W10 IO, DEV_CLRn (io), W11 IO, (RUnLU) (io), Y7 IO, DQ2B6/_/DQ0B22 (io), Y8 IO, DQ2B2/_/DQ0B18 (io), Y9 IO, FCLK4 (io), Y10 IO, RUP7 (io), Y11 IO (io)
part F pins: AA16 IO (io), AA17 IO, DQS7B/_/DQS1B (io), AA18 IO, DQ7B6/_/DQ1B14 (io), AB16 IO, DQ7B3/_/DQ1B11 (io), AB17 IO, DQ7B2/_/DQ1B10 (io), AB18 IO, DQ7B5/_/DQ1B13 (io), AC15 IO, DQ6B2/_/DQ1B2 (io), AC16 IO, DQ6B1/_/DQ1B1 (io), AC17 IO, DQ6B3/_/DQ1B3 (io), AC18 IO, DQ8B1/_/DQ1B17 (io), AD14 IO, CLK5n (io), AD15 IO, DQ6B5/_/DQ1B5 (io), AD16 IO, DQS6B/_/_ (io), AD17 IO, DQ6B6/_/DQ1B6 (io), AD18 IO, DQ8B5/_/DQ1B21 (io), AD19 IO, DQ8B4/_/DQ1B20 (io), AD20 IO, DQ9B1/_/DQ1B25 (io), AD21 IO, DQ9B2/_/DQ1B26 (io), AD22 IO, DQ9B5/_/DQ1B29 (io), AE15 IO, DQ6B0/_/DQ1B0 (io), AE16 IO, DQ6B4/_/DQ1B4 (io), AE17 IO, DQ6B7/_/DQ1B7 (io), AE18 IO, DQS8B/_/_ (io), AE19 IO, DQ8B6/_/DQ1B22 (io), AE20 IO, DQ9B0/_/DQ1B24 (io), AE21 IO, DQS9B/_/_ (io), AE22 IO, DQ9B6/_/DQ1B30 (io), AF14 IO, CLK4n (io), AF17 IO, DQ8B2/_/DQ1B18 (io), AF18 IO, DQ8B0/_/DQ1B16 (io), AF19 IO, DQ8B3/_/DQ1B19 (io), AF20 IO, DQ8B7/_/DQ1B23 (io), AF21 IO, DQ9B3/_/DQ1B27 (io), AF22 IO, DQ9B4/_/DQ1B28 (io), AF23 IO, DQ9B7/_/DQ1B31 (io), R13 IO, (nCS) (io), R15 IO, RDN8 (io), T15 IO, (PGM2) (io), T16 IO, FCLK3 (io), U14 IO, (CS) (io), U15 IO (io), U16 IO, FCLK2 (io), V16 IO, RUP8 (io), W16 IO, (RDYnBSY) (io), W17 IO, DQ7B1/_/DQ1B9 (io), W18 IO, DQ7B4/_/DQ1B12 (io), Y15 IO (io), Y16 IO (io), Y17 IO, DQ7B0/_/DQ1B8 (io), Y18 IO, DQ7B7/_/DQ1B15 (io)
part G pins: B12 IO, PLL5_OUT1n (io), C12 IO, PLL5_OUT1p (io), C13 IO, PLL5_OUT0n (io), D13 IO, PLL5_OUT0p (io), E13 IO, PLL5_FBn (io), F13 IO, PLL5_FBp (io)
part H pins: A13 IO, PLL5_OUT3n (io), B13 IO, PLL5_OUT3p (io), E14 IO, PLL5_OUT2n (io), F14 IO, PLL5_OUT2p (io)
part I pins: AA13 IO, PLL6_OUT1p (io), AB13 IO, PLL6_OUT1n (io), AC13 IO, PLL6_OUT0p (io), AD12 IO, PLL6_FBp (io), AD13 IO, PLL6_OUT0n (io), AE12 IO, PLL6_FBn (io)
part J pins: AA14 IO, PLL6_OUT2p (io), AB14 IO, PLL6_OUT2n (io), AE13 IO, PLL6_OUT3p (io), AF13 IO, PLL6_OUT3n (io)
part K pins: AA1 GXB_RX10p (in), AA2 GXB_RX10n (in), AA4 GXB_TX11p (out), AA5 GXB_TX11n (out), AC1 GXB_RX11p (in), AC2 GXB_RX11n (in), R1 GXB_RX9p (in), R2 GXB_RX9n (in), R4 GXB_TX9p (out), R5 GXB_TX9n (out), U1 GXB_RX8p (in), U2 GXB_RX8n (in), U4 GXB_TX8p (out), U5 GXB_TX8n (out), W1 REFCLKB15p (in), W2 REFCLKB15n (in), W4 GXB_TX10p (out), W5 GXB_TX10n (out)
part L pins: F25 INPUT, DIFFIO_RX21p (in), F26 INPUT, DIFFIO_RX21n (in), G25 INPUT, DIFFIO_RX20p/RUP2 (in), G26 INPUT, DIFFIO_RX20n/RDN2 (in), H23 INPUT, DIFFIO_RX17p (in), H24 INPUT, DIFFIO_RX17n (in), H25 INPUT, DIFFIO_RX19p (in), H26 INPUT, DIFFIO_RX19n (in), J23 INPUT, DIFFIO_RX18p (in), J24 INPUT, DIFFIO_RX18n (in), J25 INPUT, DIFFIO_RX16p (in), J26 INPUT, DIFFIO_RX16n (in), K23 INPUT, DIFFIO_RX14p (in), K24 INPUT, DIFFIO_RX14n (in), K25 INPUT, DIFFIO_RX15p (in), K26 INPUT, DIFFIO_RX15n (in), L23 INPUT, DIFFIO_RX13p (in), L24 INPUT, DIFFIO_RX13n (in), L25 INPUT, DIFFIO_RX11p (in), M23 INPUT, DIFFIO_RX12p (in), M24 INPUT, DIFFIO_RX12n (in), M25 INPUT, DIFFIO_RX11n (in), R23 INPUT, DIFFIO_RX8p (in), R24 INPUT, DIFFIO_RX8n (in), R25 INPUT, DIFFIO_RX10p (in), T23 INPUT, DIFFIO_RX6p (in), T24 INPUT, DIFFIO_RX6n (in), T25 INPUT, DIFFIO_RX10n (in), U23 INPUT, DIFFIO_RX4p (in), U24 INPUT, DIFFIO_RX4n (in), U25 INPUT, DIFFIO_RX9p (in), U26 INPUT, DIFFIO_RX9n (in), V23 INPUT, DIFFIO_RX2p (in), V24 INPUT, DIFFIO_RX2n (in), V25 INPUT, DIFFIO_RX7p (in), V26 INPUT, DIFFIO_RX7n (in), W23 INPUT, DIFFIO_RX3p (in), W24 INPUT, DIFFIO_RX3n (in), W25 INPUT, DIFFIO_RX5p (in), W26 INPUT, DIFFIO_RX5n (in), Y23 INPUT, DIFFIO_RX0p (in), Y24 INPUT, DIFFIO_RX0n (in), Y25 INPUT, DIFFIO_RX1p/RUP1 (in), Y26 INPUT, DIFFIO_RX1n/RDN1 (in)
part M pins: AB12 CLK6p (in), AC14 CLK5p (in), AE14 CLK4p (in), B14 CLK14p (in), D14 CLK15p (in), E12 CLK12p (in), G12 CLK13p (in), N23 CLK1p (in), N25 CLK0p (in), N26 CLK0n (in), P23 CLK3p (in), P25 CLK2p (in), P26 CLK2n (in), Y12 CLK7p (in)
part N pins: J16 VREF0B3 (in), J17 VREF1B3 (in), K7 RREFB15A (in), K9 VREF0B4 (in), K10 VREF1B4 (in), L17 VREF0B2 (in), L18 VREF1B2 (in), R16 VREF0B1 (in), T18 VREF1B1 (in), U7 RREFB15 (in), V10 VREF1B7 (in), V11 VREF0B7 (in), V17 VREF1B8 (in), V18 VREF0B8 (in)
part O pins: F9 TMS (in), F10 TDI (in), F11 TDO (out), H9 TRST (in), J8 TCK (in), J10 TEMPDIODEn (in), J11 TEMPDIODEp (in), K13 DCLK (in), K14 nSTATUS (io), K15 CONF_DONE (io), L14 nCONFIG (in), P9 nCE (in), R9 VCCSEL (in), T9 nCEO (out), T10 nIO_PULLUP (in), T13 MSEL1 (in), U10 PORSEL (in), U13 MSEL0 (in), V14 MSEL2 (in), W15 PLL_ENA (in)
part P pins: A3 VCCIO4 (power), A12 VCCIO4 (power), A15 VCCIO3 (power), A24 VCCIO3 (power), AB6 VCCINT (power), AD26 VCCIO1 (power), AF3 VCCIO7 (power), AF12 VCCIO7 (power), AF15 VCCIO8 (power), AF24 VCCIO8 (power), C26 VCCIO2 (power), F6 VCCINT (power), H6 VCCINT (power), K6 VCCINT (power), L6 VCCT_B15 (power), L7 VCCR_B15 (power), L8 VCCP_B15 (power), L9 VCCINT (power), L10 VCCINT (power), L11 VCCINT (power), L12 VCCIO4 (power), L13 VCCIO3 (power), M6 VCCT_B15 (power), M7 VCCR_B15 (power), M8 VCCP_B15 (power), M9 VCCINT (power), M10 VCCINT (power), M14 VCCINT (power), M26 VCCIO2 (power), N7 VCCA_B15 (power), N8 VCCG_B15 (power), N9 VCCINT (power), N11 VCCINT (power), N13 VCCINT (power), N15 VCCINT (power), N16 VCCINT (power), N18 VCCIO2 (power), P7 VCCG_B15 (power), P8 VCCA_B15 (power), P10 VCCINT (power), P12 VCCINT (power), P14 VCCINT (power), P16 VCCINT (power), P18 VCCIO1 (power), R6 VCCT_B15 (power), R7 VCCR_B15 (power), R8 VCCP_B15 (power), R26 VCCIO1 (power), T6 VCCT_B15 (power), T7 VCCR_B15 (power), T8 VCCP_B15 (power), T12 VCCIO7 (power), T14 VCCIO8 (power), V6 VCCINT (power), Y6 VCCINT (power)
part Q pins: A2 GND (power), A11 GND (power), A16 GND (power), A25 GND (power), AA6 GND (power), AC3 GND (power), AD3 GND (power), AE1 GND (power), AE26 GND (power), AF2 GND (power), AF11 GND (power), AF16 GND (power), AF25 GND (power), B1 GND (power), B26 GND (power), D3 GND (power), E1 GND/NC (power), E2 GND/NC (power), G1 GND/NC (power), G2 GND/NC (power), G4 GND/NC (power), G5 GND/NC (power), G6 GND (power), H17 GND (power), J1 GND/NC (power), J2 GND/NC (power), J4 GND/NC (power), J5 GND/NC (power), J6 GND (power), L1 GND/NC (power), L2 GND/NC (power), L4 GND/NC (power), L5 GND/NC (power), L26 GND (power), M11 GND (power), M12 GND (power), M13 GND (power), N1 GND/NC (power), N2 GND/NC (power), N4 GND/NC (power), N5 GND/NC (power), N6 GND (power), N10 GND (power), N12 GND (power), N14 GND (power), N17 GND (power), P6 GND (power), P11 GND (power), P13 GND (power), P15 GND (power), P17 GND (power), R12 GND (power), R14 GND (power), T26 GND (power), U6 GND (power), W6 GND (power)
part R pins: AA3 GXB_GND (power), AB1 GXB_GND (power), AB2 GXB_GND (power), AB3 GXB_GND (power), AB4 GXB_GND (power), AB5 GXB_GND (power), AD1 GXB_GND (power), AD2 GXB_GND (power), D1 GXB_GND (power), D2 GXB_GND (power), E3 GXB_GND (power), F1 GXB_GND (power), F2 GXB_GND (power), F3 GXB_GND (power), F4 GXB_GND (power), F5 GXB_GND (power), G3 GXB_GND (power), H1 GXB_GND (power), H2 GXB_GND (power), H3 GXB_GND (power), H4 GXB_GND (power), H5 GXB_GND (power), J3 GXB_GND (power), K1 GXB_GND (power), K2 GXB_GND (power), K3 GXB_GND (power), K4 GXB_GND (power), K5 GXB_GND (power), L3 GXB_GND (power), M1 GXB_GND (power), M2 GXB_GND (power), M3 GXB_GND (power), M4 GXB_GND (power), M5 GXB_GND (power), N3 GXB_GND (power), P1 GXB_GND (power), P2 GXB_GND (power), P3 GXB_GND (power), P4 GXB_GND (power), P5 GXB_GND (power), R3 GXB_GND (power), T1 GXB_GND (power), T2 GXB_GND (power), T3 GXB_GND (power), T4 GXB_GND (power), T5 GXB_GND (power), U3 GXB_GND (power), V1 GXB_GND (power), V2 GXB_GND (power), V3 GXB_GND (power), V4 GXB_GND (power), V5 GXB_GND (power), W3 GXB_GND (power), Y1 GXB_GND (power), Y2 GXB_GND (power), Y3 GXB_GND (power), Y4 GXB_GND (power), Y5 GXB_GND (power)
part S pins: G13 GNDA_PLL5 (power), H12 VCCG_PLL5 (power), H13 VCCA_PLL5 (power), J12 GNDG_PLL5 (power), J13 VCC_PLL5_OUTA (power), K12 VCC_PLL5_OUTB (power), N19 GNDG_PLL1 (power), N20 VCCA_PLL1 (power), N21 VCCG_PLL1 (power), N22 GNDA_PLL1 (power), P19 GNDG_PLL2 (power), P20 VCCG_PLL2 (power), P21 VCCA_PLL2 (power), P22 GNDA_PLL2 (power), R11 VCC_PLL6_OUTB (power), T11 VCCA_PLL6 (power), U12 GNDG_PLL6 (power), V12 VCCG_PLL6 (power), V13 VCC_PLL6_OUTA (power), W12 GNDA_PLL6 (power)
part T pins: AA9 NC, AA10 NC, AA15 NC, AA19 NC, AA20 NC, AA21 NC, AA22 NC, AA23 NC, AA24 NC, AA25 NC, AA26 NC, AB10 NC, AB11 NC, AB15 NC, AB19 NC, AB20 NC, AB21 NC, AB22 NC, AB23 NC, AB24 NC, AB25 NC, AB26 NC, AC10 NC, AC11 NC, AC19 NC, AC20 NC, AC21 NC, AC22 NC, AC23 NC, AC24 NC, AC25 NC, AC26 NC, AD10 NC, AD11 NC, AD23 NC, AD24 NC, AD25 NC, AE23 NC, AE24 NC, AE25 NC, B10 NC, B11 NC, B25 NC, C10 NC, C11 NC, C23 NC, C24 NC, C25 NC, D10 NC, D11 NC, D21 NC, D22 NC, D23 NC, D24 NC, D25 NC, D26 NC, E9 NC, E19 NC, E20 NC, E21 NC, E22 NC, E23 NC, E24 NC, E25 NC, E26 NC, F16 NC, F19 NC, F20 NC, F21 NC, F22 NC, F23 NC, F24 NC, G14 NC, G15 NC, G19 NC, G20 NC, G21 NC, G22 NC, G23 NC, G24 NC, H14 NC, H15 NC, H21 NC, H22 NC, J14 NC, J15 NC, J18 NC, K11 NC, T17 NC, V9 NC, V15 NC, W13 NC, W14 NC, W21 NC, W22 NC, Y13 NC, Y14 NC, Y19 NC, Y20 NC, Y21 NC, Y22 NC
part A text: BANK 1
part B text: BANK 2
part C text: BANK 3
part D text: BANK 4
part E text: BANK 7
part F text: BANK 8
part G text: BANK 9
part H text: BANK 10
part I text: BANK 11
part J text: BANK 12
part K text: BANK 15

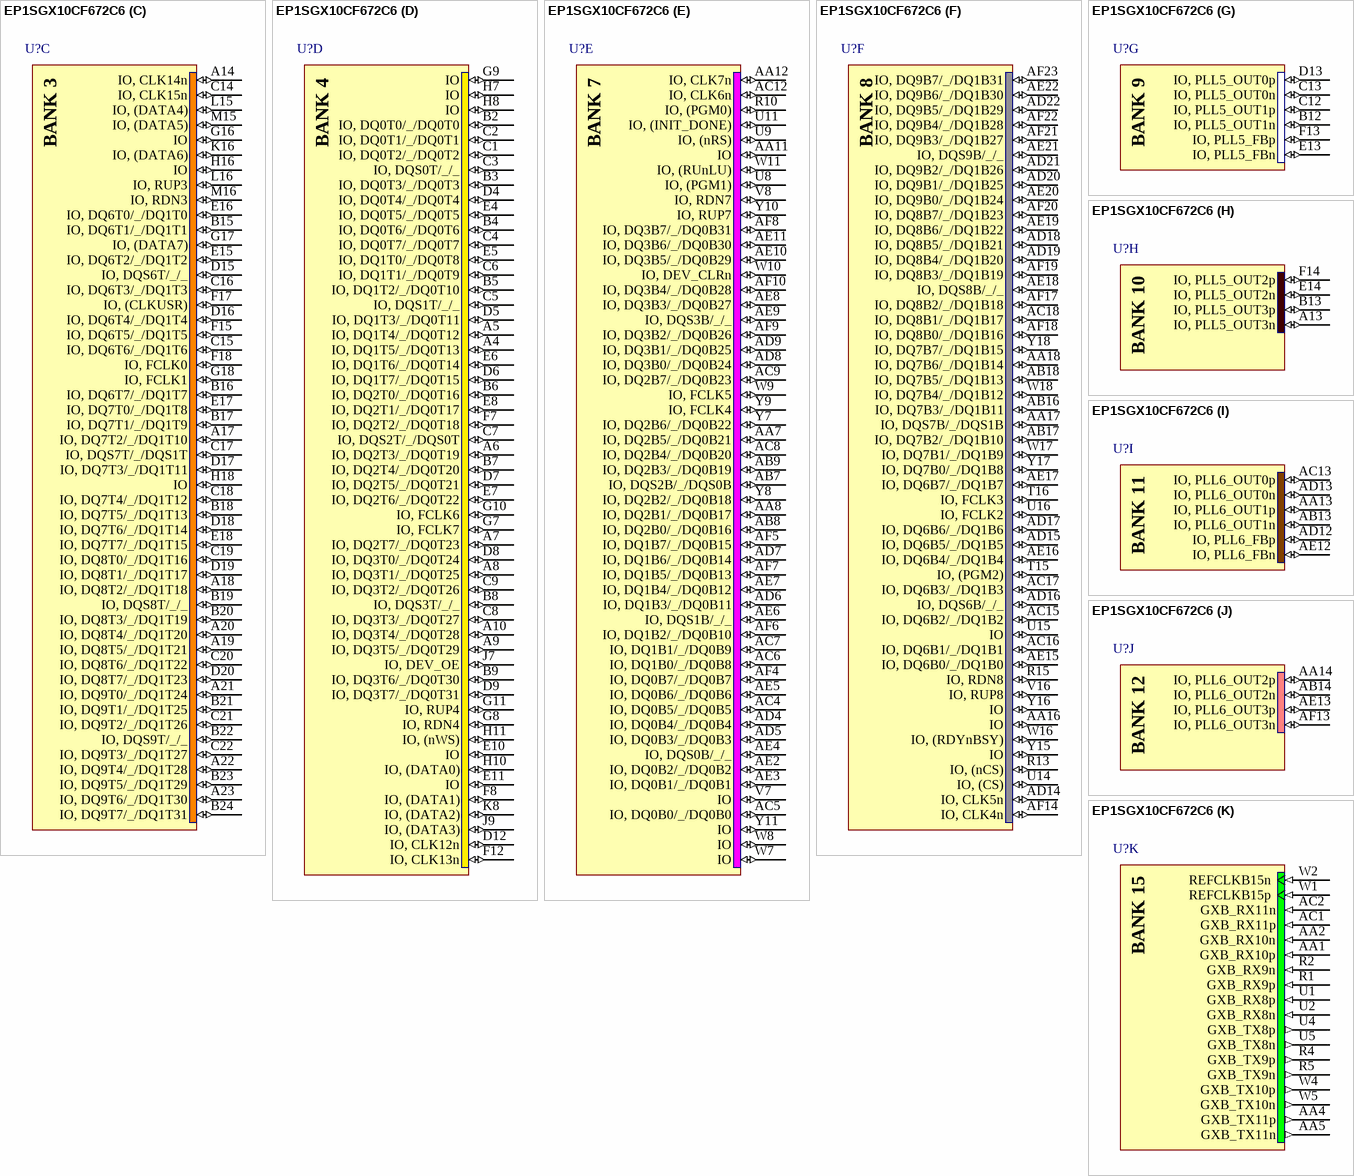
[diagram p4: symbol EP1SGX10CF672C6]

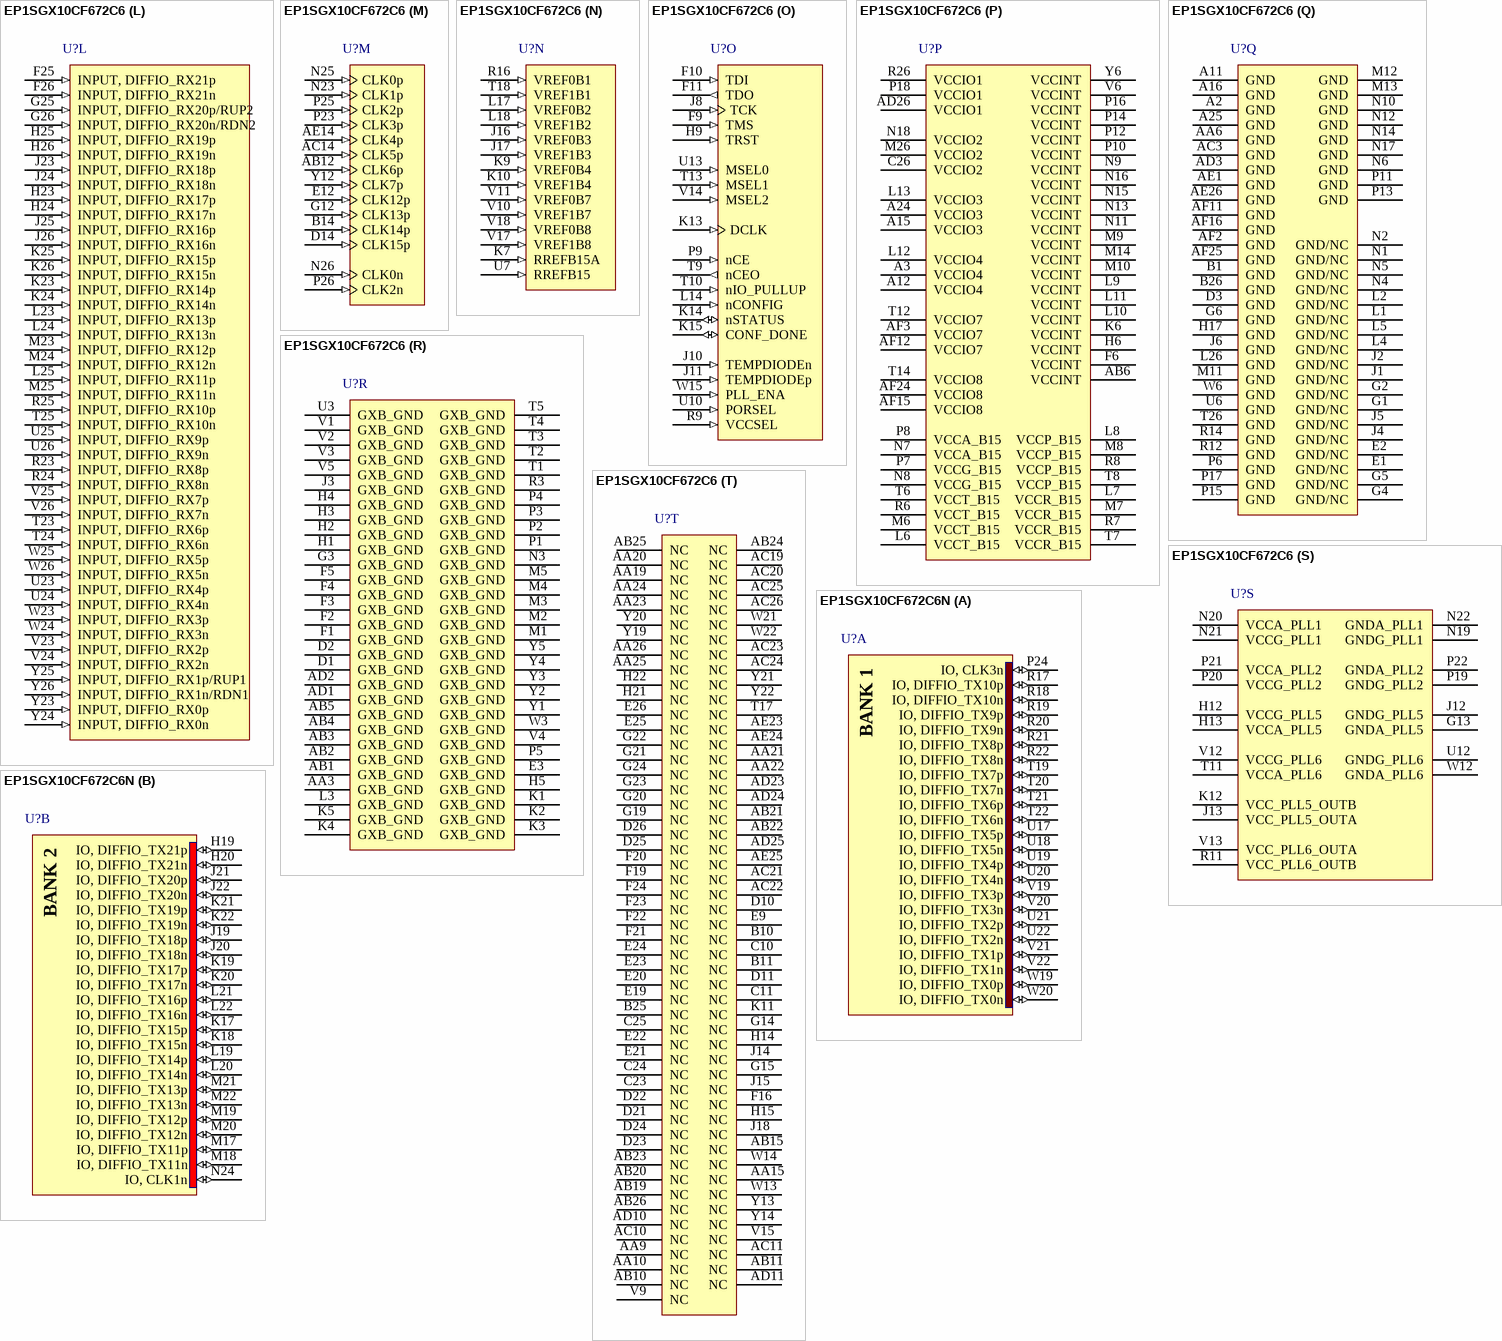
[diagram p5: symbols EP1SGX10CF672C6 to EP1SGX10CF672C6N]

## EP1SGX10CF672C6
designator U?
Stratix GX 1.5V FPGA, 330 I/Os, 672-Pin FineLine FBGA, Commercial Grade, Speed Grade 6; Published: 11-Oct-2004; LatestRevisionDate: 13-Apr-2006; LatestRevisionNote: Name of pin K7 updated, IPC-7351 Footprint Added.; DatasheetVersion: ver1.2, Jun-2006; PackageVersion: ver14.3, Jul-2006; PackageReference: FBGA672; Publisher: Altium Limited; PackageDescription: 672-Ball FineLine Ball Grid Array (FBGA672) - Flip Chip; Code_JEDEC: MS-034-AAL-1; ComponentLink1Description: Manufacturer Link; ComponentLink1URL: http://www.altera.com/products/devices/stratixgx/sgx-index.jsp; ComponentLink2Description: Handbook; ComponentLink2URL: http://www.altera.com/literature/hb/sgx/sgx_handbook.pdf; ComponentLink3Description: Packaging Specification; ComponentLink3URL: http://www.altera.com/literature/ds/dspkg.pdf
footprint FBGA672 (BGA, 672-Leads, Body 27x27mm, Pitch 1mm)
3D model EP1SGX10C-BGA672 (672-Ball FineLine Ball Grid Array (FBGA672) - Flip Chip)
part A pins: P24 IO, CLK3n (io), R17 IO, DIFFIO_TX10p (io), R18 IO, DIFFIO_TX10n (io), R19 IO, DIFFIO_TX9p (io), R20 IO, DIFFIO_TX9n (io), R21 IO, DIFFIO_TX8p (io), R22 IO, DIFFIO_TX8n (io), T19 IO, DIFFIO_TX7p (io), T20 IO, DIFFIO_TX7n (io), T21 IO, DIFFIO_TX6p (io), T22 IO, DIFFIO_TX6n (io), U17 IO, DIFFIO_TX5p (io), U18 IO, DIFFIO_TX5n (io), U19 IO, DIFFIO_TX4p (io), U20 IO, DIFFIO_TX4n (io), U21 IO, DIFFIO_TX2p (io), U22 IO, DIFFIO_TX2n (io), V19 IO, DIFFIO_TX3p (io), V20 IO, DIFFIO_TX3n (io), V21 IO, DIFFIO_TX1p (io), V22 IO, DIFFIO_TX1n (io), W19 IO, DIFFIO_TX0p (io), W20 IO, DIFFIO_TX0n (io)
part B pins: H19 IO, DIFFIO_TX21p (io), H20 IO, DIFFIO_TX21n (io), J19 IO, DIFFIO_TX18p (io), J20 IO, DIFFIO_TX18n (io), J21 IO, DIFFIO_TX20p (io), J22 IO, DIFFIO_TX20n (io), K17 IO, DIFFIO_TX15p (io), K18 IO, DIFFIO_TX15n (io), K19 IO, DIFFIO_TX17p (io), K20 IO, DIFFIO_TX17n (io), K21 IO, DIFFIO_TX19p (io), K22 IO, DIFFIO_TX19n (io), L19 IO, DIFFIO_TX14p (io), L20 IO, DIFFIO_TX14n (io), L21 IO, DIFFIO_TX16p (io), L22 IO, DIFFIO_TX16n (io), M17 IO, DIFFIO_TX11p (io), M18 IO, DIFFIO_TX11n (io), M19 IO, DIFFIO_TX12p (io), M20 IO, DIFFIO_TX12n (io), M21 IO, DIFFIO_TX13p (io), M22 IO, DIFFIO_TX13n (io), N24 IO, CLK1n (io)
part C pins: A14 IO, CLK14n (io), A17 IO, DQ7T2/_/DQ1T10 (io), A18 IO, DQ8T2/_/DQ1T18 (io), A19 IO, DQ8T5/_/DQ1T21 (io), A20 IO, DQ8T4/_/DQ1T20 (io), A21 IO, DQ9T0/_/DQ1T24 (io), A22 IO, DQ9T4/_/DQ1T28 (io), A23 IO, DQ9T6/_/DQ1T30 (io), B15 IO, DQ6T1/_/DQ1T1 (io), B16 IO, DQ6T7/_/DQ1T7 (io), B17 IO, DQ7T1/_/DQ1T9 (io), B18 IO, DQ7T5/_/DQ1T13 (io), B19 IO, DQS8T/_/_ (io), B20 IO, DQ8T3/_/DQ1T19 (io), B21 IO, DQ9T1/_/DQ1T25 (io), B22 IO, DQS9T/_/_ (io), B23 IO, DQ9T5/_/DQ1T29 (io), B24 IO, DQ9T7/_/DQ1T31 (io), C14 IO, CLK15n (io), C15 IO, DQ6T6/_/DQ1T6 (io), C16 IO, DQ6T3/_/DQ1T3 (io), C17 IO, DQS7T/_/DQS1T (io), C18 IO, DQ7T4/_/DQ1T12 (io), C19 IO, DQ8T0/_/DQ1T16 (io), C20 IO, DQ8T6/_/DQ1T22 (io), C21 IO, DQ9T2/_/DQ1T26 (io), C22 IO, DQ9T3/_/DQ1T27 (io), D15 IO, DQS6T/_/_ (io), D16 IO, DQ6T4/_/DQ1T4 (io), D17 IO, DQ7T3/_/DQ1T11 (io), D18 IO, DQ7T6/_/DQ1T14 (io), D19 IO, DQ8T1/_/DQ1T17 (io), D20 IO, DQ8T7/_/DQ1T23 (io), E15 IO, DQ6T2/_/DQ1T2 (io), E16 IO, DQ6T0/_/DQ1T0 (io), E17 IO, DQ7T0/_/DQ1T8 (io), E18 IO, DQ7T7/_/DQ1T15 (io), F15 IO, DQ6T5/_/DQ1T5 (io), F17 IO, (CLKUSR) (io), F18 IO, FCLK0 (io), G16 IO (io), G17 IO, (DATA7) (io), G18 IO, FCLK1 (io), H16 IO (io), H18 IO (io), K16 IO, (DATA6) (io), L15 IO, (DATA4) (io), L16 IO, RUP3 (io), M15 IO, (DATA5) (io), M16 IO, RDN3 (io)
part D pins: A4 IO, DQ1T5/_/DQ0T13 (io), A5 IO, DQ1T4/_/DQ0T12 (io), A6 IO, DQ2T3/_/DQ0T19 (io), A7 IO, DQ2T7/_/DQ0T23 (io), A8 IO, DQ3T1/_/DQ0T25 (io), A9 IO, DQ3T5/_/DQ0T29 (io), A10 IO, DQ3T4/_/DQ0T28 (io), B2 IO, DQ0T0/_/DQ0T0 (io), B3 IO, DQ0T3/_/DQ0T3 (io), B4 IO, DQ0T6/_/DQ0T6 (io), B5 IO, DQ1T2/_/DQ0T10 (io), B6 IO, DQ2T0/_/DQ0T16 (io), B7 IO, DQ2T4/_/DQ0T20 (io), B8 IO, DQS3T/_/_ (io), B9 IO, DQ3T6/_/DQ0T30 (io), C1 IO, DQ0T2/_/DQ0T2 (io), C2 IO, DQ0T1/_/DQ0T1 (io), C3 IO, DQS0T/_/_ (io), C4 IO, DQ0T7/_/DQ0T7 (io), C5 IO, DQS1T/_/_ (io), C6 IO, DQ1T1/_/DQ0T9 (io), C7 IO, DQS2T/_/DQS0T (io), C8 IO, DQ3T3/_/DQ0T27 (io), C9 IO, DQ3T2/_/DQ0T26 (io), D4 IO, DQ0T4/_/DQ0T4 (io), D5 IO, DQ1T3/_/DQ0T11 (io), D6 IO, DQ1T7/_/DQ0T15 (io), D7 IO, DQ2T5/_/DQ0T21 (io), D8 IO, DQ3T0/_/DQ0T24 (io), D9 IO, DQ3T7/_/DQ0T31 (io), D12 IO, CLK12n (io), E4 IO, DQ0T5/_/DQ0T5 (io), E5 IO, DQ1T0/_/DQ0T8 (io), E6 IO, DQ1T6/_/DQ0T14 (io), E7 IO, DQ2T6/_/DQ0T22 (io), E8 IO, DQ2T1/_/DQ0T17 (io), E10 IO (io), E11 IO (io), F7 IO, DQ2T2/_/DQ0T18 (io), F8 IO, (DATA1) (io), F12 IO, CLK13n (io), G7 IO, FCLK7 (io), G8 IO, RDN4 (io), G9 IO (io), G10 IO, FCLK6 (io), G11 IO, RUP4 (io), H7 IO (io), H8 IO (io), H10 IO, (DATA0) (io), H11 IO, (nWS) (io), J7 IO, DEV_OE (io), J9 IO, (DATA3) (io), K8 IO, (DATA2) (io)
part E pins: AA7 IO, DQ2B5/_/DQ0B21 (io), AA8 IO, DQ2B1/_/DQ0B17 (io), AA11 IO (io), AA12 IO, CLK7n (io), AB7 IO, DQS2B/_/DQS0B (io), AB8 IO, DQ2B0/_/DQ0B16 (io), AB9 IO, DQ2B3/_/DQ0B19 (io), AC4 IO, DQ0B5/_/DQ0B5 (io), AC5 IO, DQ0B0/_/DQ0B0 (io), AC6 IO, DQ1B0/_/DQ0B8 (io), AC7 IO, DQ1B1/_/DQ0B9 (io), AC8 IO, DQ2B4/_/DQ0B20 (io), AC9 IO, DQ2B7/_/DQ0B23 (io), AC12 IO, CLK6n (io), AD4 IO, DQ0B4/_/DQ0B4 (io), AD5 IO, DQ0B3/_/DQ0B3 (io), AD6 IO, DQ1B3/_/DQ0B11 (io), AD7 IO, DQ1B6/_/DQ0B14 (io), AD8 IO, DQ3B0/_/DQ0B24 (io), AD9 IO, DQ3B1/_/DQ0B25 (io), AE2 IO, DQ0B2/_/DQ0B2 (io), AE3 IO, DQ0B1/_/DQ0B1 (io), AE4 IO, DQS0B/_/_ (io), AE5 IO, DQ0B6/_/DQ0B6 (io), AE6 IO, DQS1B/_/_ (io), AE7 IO, DQ1B4/_/DQ0B12 (io), AE8 IO, DQ3B3/_/DQ0B27 (io), AE9 IO, DQS3B/_/_ (io), AE10 IO, DQ3B5/_/DQ0B29 (io), AE11 IO, DQ3B6/_/DQ0B30 (io), AF4 IO, DQ0B7/_/DQ0B7 (io), AF5 IO, DQ1B7/_/DQ0B15 (io), AF6 IO, DQ1B2/_/DQ0B10 (io), AF7 IO, DQ1B5/_/DQ0B13 (io), AF8 IO, DQ3B7/_/DQ0B31 (io), AF9 IO, DQ3B2/_/DQ0B26 (io), AF10 IO, DQ3B4/_/DQ0B28 (io), R10 IO, (PGM0) (io), U8 IO, (PGM1) (io), U9 IO, (nRS) (io), U11 IO, (INIT_DONE) (io), V7 IO (io), V8 IO, RDN7 (io), W7 IO (io), W8 IO (io), W9 IO, FCLK5 (io), W10 IO, DEV_CLRn (io), W11 IO, (RUnLU) (io), Y7 IO, DQ2B6/_/DQ0B22 (io), Y8 IO, DQ2B2/_/DQ0B18 (io), Y9 IO, FCLK4 (io), Y10 IO, RUP7 (io), Y11 IO (io)
part F pins: AA16 IO (io), AA17 IO, DQS7B/_/DQS1B (io), AA18 IO, DQ7B6/_/DQ1B14 (io), AB16 IO, DQ7B3/_/DQ1B11 (io), AB17 IO, DQ7B2/_/DQ1B10 (io), AB18 IO, DQ7B5/_/DQ1B13 (io), AC15 IO, DQ6B2/_/DQ1B2 (io), AC16 IO, DQ6B1/_/DQ1B1 (io), AC17 IO, DQ6B3/_/DQ1B3 (io), AC18 IO, DQ8B1/_/DQ1B17 (io), AD14 IO, CLK5n (io), AD15 IO, DQ6B5/_/DQ1B5 (io), AD16 IO, DQS6B/_/_ (io), AD17 IO, DQ6B6/_/DQ1B6 (io), AD18 IO, DQ8B5/_/DQ1B21 (io), AD19 IO, DQ8B4/_/DQ1B20 (io), AD20 IO, DQ9B1/_/DQ1B25 (io), AD21 IO, DQ9B2/_/DQ1B26 (io), AD22 IO, DQ9B5/_/DQ1B29 (io), AE15 IO, DQ6B0/_/DQ1B0 (io), AE16 IO, DQ6B4/_/DQ1B4 (io), AE17 IO, DQ6B7/_/DQ1B7 (io), AE18 IO, DQS8B/_/_ (io), AE19 IO, DQ8B6/_/DQ1B22 (io), AE20 IO, DQ9B0/_/DQ1B24 (io), AE21 IO, DQS9B/_/_ (io), AE22 IO, DQ9B6/_/DQ1B30 (io), AF14 IO, CLK4n (io), AF17 IO, DQ8B2/_/DQ1B18 (io), AF18 IO, DQ8B0/_/DQ1B16 (io), AF19 IO, DQ8B3/_/DQ1B19 (io), AF20 IO, DQ8B7/_/DQ1B23 (io), AF21 IO, DQ9B3/_/DQ1B27 (io), AF22 IO, DQ9B4/_/DQ1B28 (io), AF23 IO, DQ9B7/_/DQ1B31 (io), R13 IO, (nCS) (io), R15 IO, RDN8 (io), T15 IO, (PGM2) (io), T16 IO, FCLK3 (io), U14 IO, (CS) (io), U15 IO (io), U16 IO, FCLK2 (io), V16 IO, RUP8 (io), W16 IO, (RDYnBSY) (io), W17 IO, DQ7B1/_/DQ1B9 (io), W18 IO, DQ7B4/_/DQ1B12 (io), Y15 IO (io), Y16 IO (io), Y17 IO, DQ7B0/_/DQ1B8 (io), Y18 IO, DQ7B7/_/DQ1B15 (io)
part G pins: B12 IO, PLL5_OUT1n (io), C12 IO, PLL5_OUT1p (io), C13 IO, PLL5_OUT0n (io), D13 IO, PLL5_OUT0p (io), E13 IO, PLL5_FBn (io), F13 IO, PLL5_FBp (io)
part H pins: A13 IO, PLL5_OUT3n (io), B13 IO, PLL5_OUT3p (io), E14 IO, PLL5_OUT2n (io), F14 IO, PLL5_OUT2p (io)
part I pins: AA13 IO, PLL6_OUT1p (io), AB13 IO, PLL6_OUT1n (io), AC13 IO, PLL6_OUT0p (io), AD12 IO, PLL6_FBp (io), AD13 IO, PLL6_OUT0n (io), AE12 IO, PLL6_FBn (io)
part J pins: AA14 IO, PLL6_OUT2p (io), AB14 IO, PLL6_OUT2n (io), AE13 IO, PLL6_OUT3p (io), AF13 IO, PLL6_OUT3n (io)
part K pins: AA1 GXB_RX10p (in), AA2 GXB_RX10n (in), AA4 GXB_TX11p (out), AA5 GXB_TX11n (out), AC1 GXB_RX11p (in), AC2 GXB_RX11n (in), R1 GXB_RX9p (in), R2 GXB_RX9n (in), R4 GXB_TX9p (out), R5 GXB_TX9n (out), U1 GXB_RX8p (in), U2 GXB_RX8n (in), U4 GXB_TX8p (out), U5 GXB_TX8n (out), W1 REFCLKB15p (in), W2 REFCLKB15n (in), W4 GXB_TX10p (out), W5 GXB_TX10n (out)
part L pins: F25 INPUT, DIFFIO_RX21p (in), F26 INPUT, DIFFIO_RX21n (in), G25 INPUT, DIFFIO_RX20p/RUP2 (in), G26 INPUT, DIFFIO_RX20n/RDN2 (in), H23 INPUT, DIFFIO_RX17p (in), H24 INPUT, DIFFIO_RX17n (in), H25 INPUT, DIFFIO_RX19p (in), H26 INPUT, DIFFIO_RX19n (in), J23 INPUT, DIFFIO_RX18p (in), J24 INPUT, DIFFIO_RX18n (in), J25 INPUT, DIFFIO_RX16p (in), J26 INPUT, DIFFIO_RX16n (in), K23 INPUT, DIFFIO_RX14p (in), K24 INPUT, DIFFIO_RX14n (in), K25 INPUT, DIFFIO_RX15p (in), K26 INPUT, DIFFIO_RX15n (in), L23 INPUT, DIFFIO_RX13p (in), L24 INPUT, DIFFIO_RX13n (in), L25 INPUT, DIFFIO_RX11p (in), M23 INPUT, DIFFIO_RX12p (in), M24 INPUT, DIFFIO_RX12n (in), M25 INPUT, DIFFIO_RX11n (in), R23 INPUT, DIFFIO_RX8p (in), R24 INPUT, DIFFIO_RX8n (in), R25 INPUT, DIFFIO_RX10p (in), T23 INPUT, DIFFIO_RX6p (in), T24 INPUT, DIFFIO_RX6n (in), T25 INPUT, DIFFIO_RX10n (in), U23 INPUT, DIFFIO_RX4p (in), U24 INPUT, DIFFIO_RX4n (in), U25 INPUT, DIFFIO_RX9p (in), U26 INPUT, DIFFIO_RX9n (in), V23 INPUT, DIFFIO_RX2p (in), V24 INPUT, DIFFIO_RX2n (in), V25 INPUT, DIFFIO_RX7p (in), V26 INPUT, DIFFIO_RX7n (in), W23 INPUT, DIFFIO_RX3p (in), W24 INPUT, DIFFIO_RX3n (in), W25 INPUT, DIFFIO_RX5p (in), W26 INPUT, DIFFIO_RX5n (in), Y23 INPUT, DIFFIO_RX0p (in), Y24 INPUT, DIFFIO_RX0n (in), Y25 INPUT, DIFFIO_RX1p/RUP1 (in), Y26 INPUT, DIFFIO_RX1n/RDN1 (in)
part M pins: AB12 CLK6p (in), AC14 CLK5p (in), AE14 CLK4p (in), B14 CLK14p (in), D14 CLK15p (in), E12 CLK12p (in), G12 CLK13p (in), N23 CLK1p (in), N25 CLK0p (in), N26 CLK0n (in), P23 CLK3p (in), P25 CLK2p (in), P26 CLK2n (in), Y12 CLK7p (in)
part N pins: J16 VREF0B3 (in), J17 VREF1B3 (in), K7 RREFB15A (in), K9 VREF0B4 (in), K10 VREF1B4 (in), L17 VREF0B2 (in), L18 VREF1B2 (in), R16 VREF0B1 (in), T18 VREF1B1 (in), U7 RREFB15 (in), V10 VREF1B7 (in), V11 VREF0B7 (in), V17 VREF1B8 (in), V18 VREF0B8 (in)
part O pins: F9 TMS (in), F10 TDI (in), F11 TDO (out), H9 TRST (in), J8 TCK (in), J10 TEMPDIODEn (in), J11 TEMPDIODEp (in), K13 DCLK (in), K14 nSTATUS (io), K15 CONF_DONE (io), L14 nCONFIG (in), P9 nCE (in), R9 VCCSEL (in), T9 nCEO (out), T10 nIO_PULLUP (in), T13 MSEL1 (in), U10 PORSEL (in), U13 MSEL0 (in), V14 MSEL2 (in), W15 PLL_ENA (in)
part P pins: A3 VCCIO4 (power), A12 VCCIO4 (power), A15 VCCIO3 (power), A24 VCCIO3 (power), AB6 VCCINT (power), AD26 VCCIO1 (power), AF3 VCCIO7 (power), AF12 VCCIO7 (power), AF15 VCCIO8 (power), AF24 VCCIO8 (power), C26 VCCIO2 (power), F6 VCCINT (power), H6 VCCINT (power), K6 VCCINT (power), L6 VCCT_B15 (power), L7 VCCR_B15 (power), L8 VCCP_B15 (power), L9 VCCINT (power), L10 VCCINT (power), L11 VCCINT (power), L12 VCCIO4 (power), L13 VCCIO3 (power), M6 VCCT_B15 (power), M7 VCCR_B15 (power), M8 VCCP_B15 (power), M9 VCCINT (power), M10 VCCINT (power), M14 VCCINT (power), M26 VCCIO2 (power), N7 VCCA_B15 (power), N8 VCCG_B15 (power), N9 VCCINT (power), N11 VCCINT (power), N13 VCCINT (power), N15 VCCINT (power), N16 VCCINT (power), N18 VCCIO2 (power), P7 VCCG_B15 (power), P8 VCCA_B15 (power), P10 VCCINT (power), P12 VCCINT (power), P14 VCCINT (power), P16 VCCINT (power), P18 VCCIO1 (power), R6 VCCT_B15 (power), R7 VCCR_B15 (power), R8 VCCP_B15 (power), R26 VCCIO1 (power), T6 VCCT_B15 (power), T7 VCCR_B15 (power), T8 VCCP_B15 (power), T12 VCCIO7 (power), T14 VCCIO8 (power), V6 VCCINT (power), Y6 VCCINT (power)
part Q pins: A2 GND (power), A11 GND (power), A16 GND (power), A25 GND (power), AA6 GND (power), AC3 GND (power), AD3 GND (power), AE1 GND (power), AE26 GND (power), AF2 GND (power), AF11 GND (power), AF16 GND (power), AF25 GND (power), B1 GND (power), B26 GND (power), D3 GND (power), E1 GND/NC (power), E2 GND/NC (power), G1 GND/NC (power), G2 GND/NC (power), G4 GND/NC (power), G5 GND/NC (power), G6 GND (power), H17 GND (power), J1 GND/NC (power), J2 GND/NC (power), J4 GND/NC (power), J5 GND/NC (power), J6 GND (power), L1 GND/NC (power), L2 GND/NC (power), L4 GND/NC (power), L5 GND/NC (power), L26 GND (power), M11 GND (power), M12 GND (power), M13 GND (power), N1 GND/NC (power), N2 GND/NC (power), N4 GND/NC (power), N5 GND/NC (power), N6 GND (power), N10 GND (power), N12 GND (power), N14 GND (power), N17 GND (power), P6 GND (power), P11 GND (power), P13 GND (power), P15 GND (power), P17 GND (power), R12 GND (power), R14 GND (power), T26 GND (power), U6 GND (power), W6 GND (power)
part R pins: AA3 GXB_GND (power), AB1 GXB_GND (power), AB2 GXB_GND (power), AB3 GXB_GND (power), AB4 GXB_GND (power), AB5 GXB_GND (power), AD1 GXB_GND (power), AD2 GXB_GND (power), D1 GXB_GND (power), D2 GXB_GND (power), E3 GXB_GND (power), F1 GXB_GND (power), F2 GXB_GND (power), F3 GXB_GND (power), F4 GXB_GND (power), F5 GXB_GND (power), G3 GXB_GND (power), H1 GXB_GND (power), H2 GXB_GND (power), H3 GXB_GND (power), H4 GXB_GND (power), H5 GXB_GND (power), J3 GXB_GND (power), K1 GXB_GND (power), K2 GXB_GND (power), K3 GXB_GND (power), K4 GXB_GND (power), K5 GXB_GND (power), L3 GXB_GND (power), M1 GXB_GND (power), M2 GXB_GND (power), M3 GXB_GND (power), M4 GXB_GND (power), M5 GXB_GND (power), N3 GXB_GND (power), P1 GXB_GND (power), P2 GXB_GND (power), P3 GXB_GND (power), P4 GXB_GND (power), P5 GXB_GND (power), R3 GXB_GND (power), T1 GXB_GND (power), T2 GXB_GND (power), T3 GXB_GND (power), T4 GXB_GND (power), T5 GXB_GND (power), U3 GXB_GND (power), V1 GXB_GND (power), V2 GXB_GND (power), V3 GXB_GND (power), V4 GXB_GND (power), V5 GXB_GND (power), W3 GXB_GND (power), Y1 GXB_GND (power), Y2 GXB_GND (power), Y3 GXB_GND (power), Y4 GXB_GND (power), Y5 GXB_GND (power)
part S pins: G13 GNDA_PLL5 (power), H12 VCCG_PLL5 (power), H13 VCCA_PLL5 (power), J12 GNDG_PLL5 (power), J13 VCC_PLL5_OUTA (power), K12 VCC_PLL5_OUTB (power), N19 GNDG_PLL1 (power), N20 VCCA_PLL1 (power), N21 VCCG_PLL1 (power), N22 GNDA_PLL1 (power), P19 GNDG_PLL2 (power), P20 VCCG_PLL2 (power), P21 VCCA_PLL2 (power), P22 GNDA_PLL2 (power), R11 VCC_PLL6_OUTB (power), T11 VCCA_PLL6 (power), U12 GNDG_PLL6 (power), V12 VCCG_PLL6 (power), V13 VCC_PLL6_OUTA (power), W12 GNDA_PLL6 (power)
part T pins: AA9 NC, AA10 NC, AA15 NC, AA19 NC, AA20 NC, AA21 NC, AA22 NC, AA23 NC, AA24 NC, AA25 NC, AA26 NC, AB10 NC, AB11 NC, AB15 NC, AB19 NC, AB20 NC, AB21 NC, AB22 NC, AB23 NC, AB24 NC, AB25 NC, AB26 NC, AC10 NC, AC11 NC, AC19 NC, AC20 NC, AC21 NC, AC22 NC, AC23 NC, AC24 NC, AC25 NC, AC26 NC, AD10 NC, AD11 NC, AD23 NC, AD24 NC, AD25 NC, AE23 NC, AE24 NC, AE25 NC, B10 NC, B11 NC, B25 NC, C10 NC, C11 NC, C23 NC, C24 NC, C25 NC, D10 NC, D11 NC, D21 NC, D22 NC, D23 NC, D24 NC, D25 NC, D26 NC, E9 NC, E19 NC, E20 NC, E21 NC, E22 NC, E23 NC, E24 NC, E25 NC, E26 NC, F16 NC, F19 NC, F20 NC, F21 NC, F22 NC, F23 NC, F24 NC, G14 NC, G15 NC, G19 NC, G20 NC, G21 NC, G22 NC, G23 NC, G24 NC, H14 NC, H15 NC, H21 NC, H22 NC, J14 NC, J15 NC, J18 NC, K11 NC, T17 NC, V9 NC, V15 NC, W13 NC, W14 NC, W21 NC, W22 NC, Y13 NC, Y14 NC, Y19 NC, Y20 NC, Y21 NC, Y22 NC
part A text: BANK 1
part B text: BANK 2
part C text: BANK 3
part D text: BANK 4
part E text: BANK 7
part F text: BANK 8
part G text: BANK 9
part H text: BANK 10
part I text: BANK 11
part J text: BANK 12
part K text: BANK 15

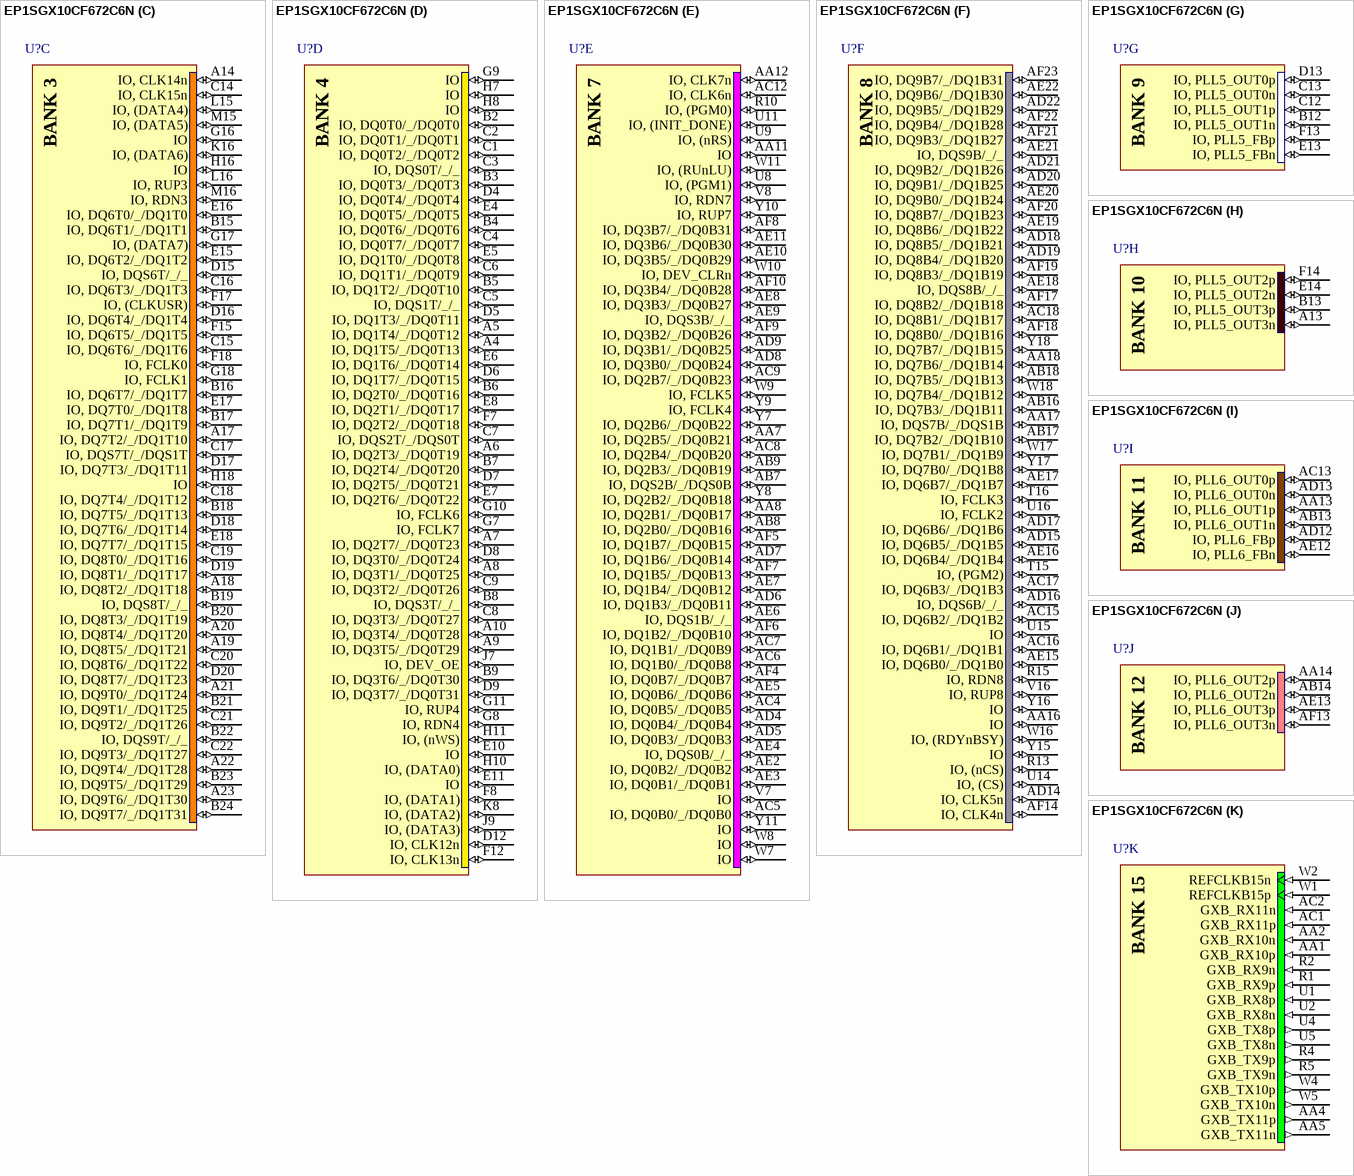
[diagram p6: symbol EP1SGX10CF672C6N]

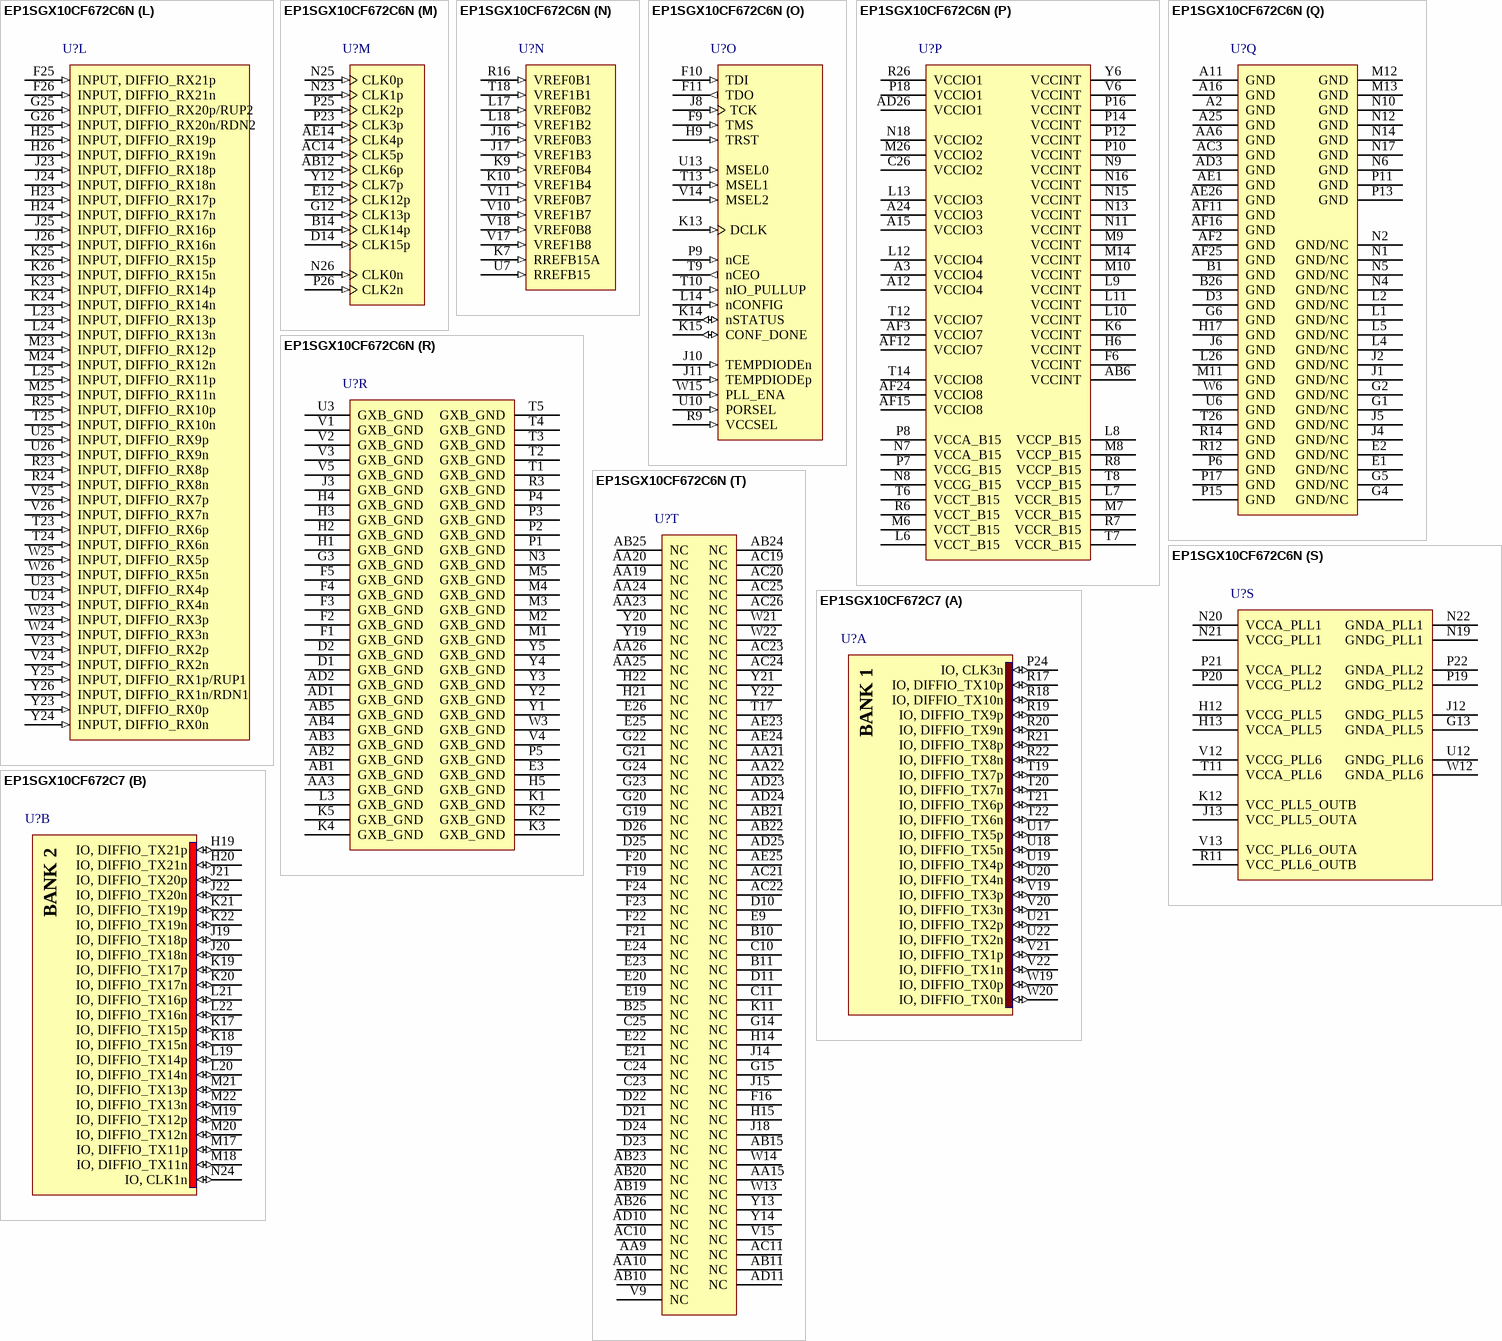
[diagram p7: symbols EP1SGX10CF672C6N to EP1SGX10CF672C7]